# Altium schematic symbol library ESTEEMPCBLIB.SchLib: 593 symbols (part 3 of 5)
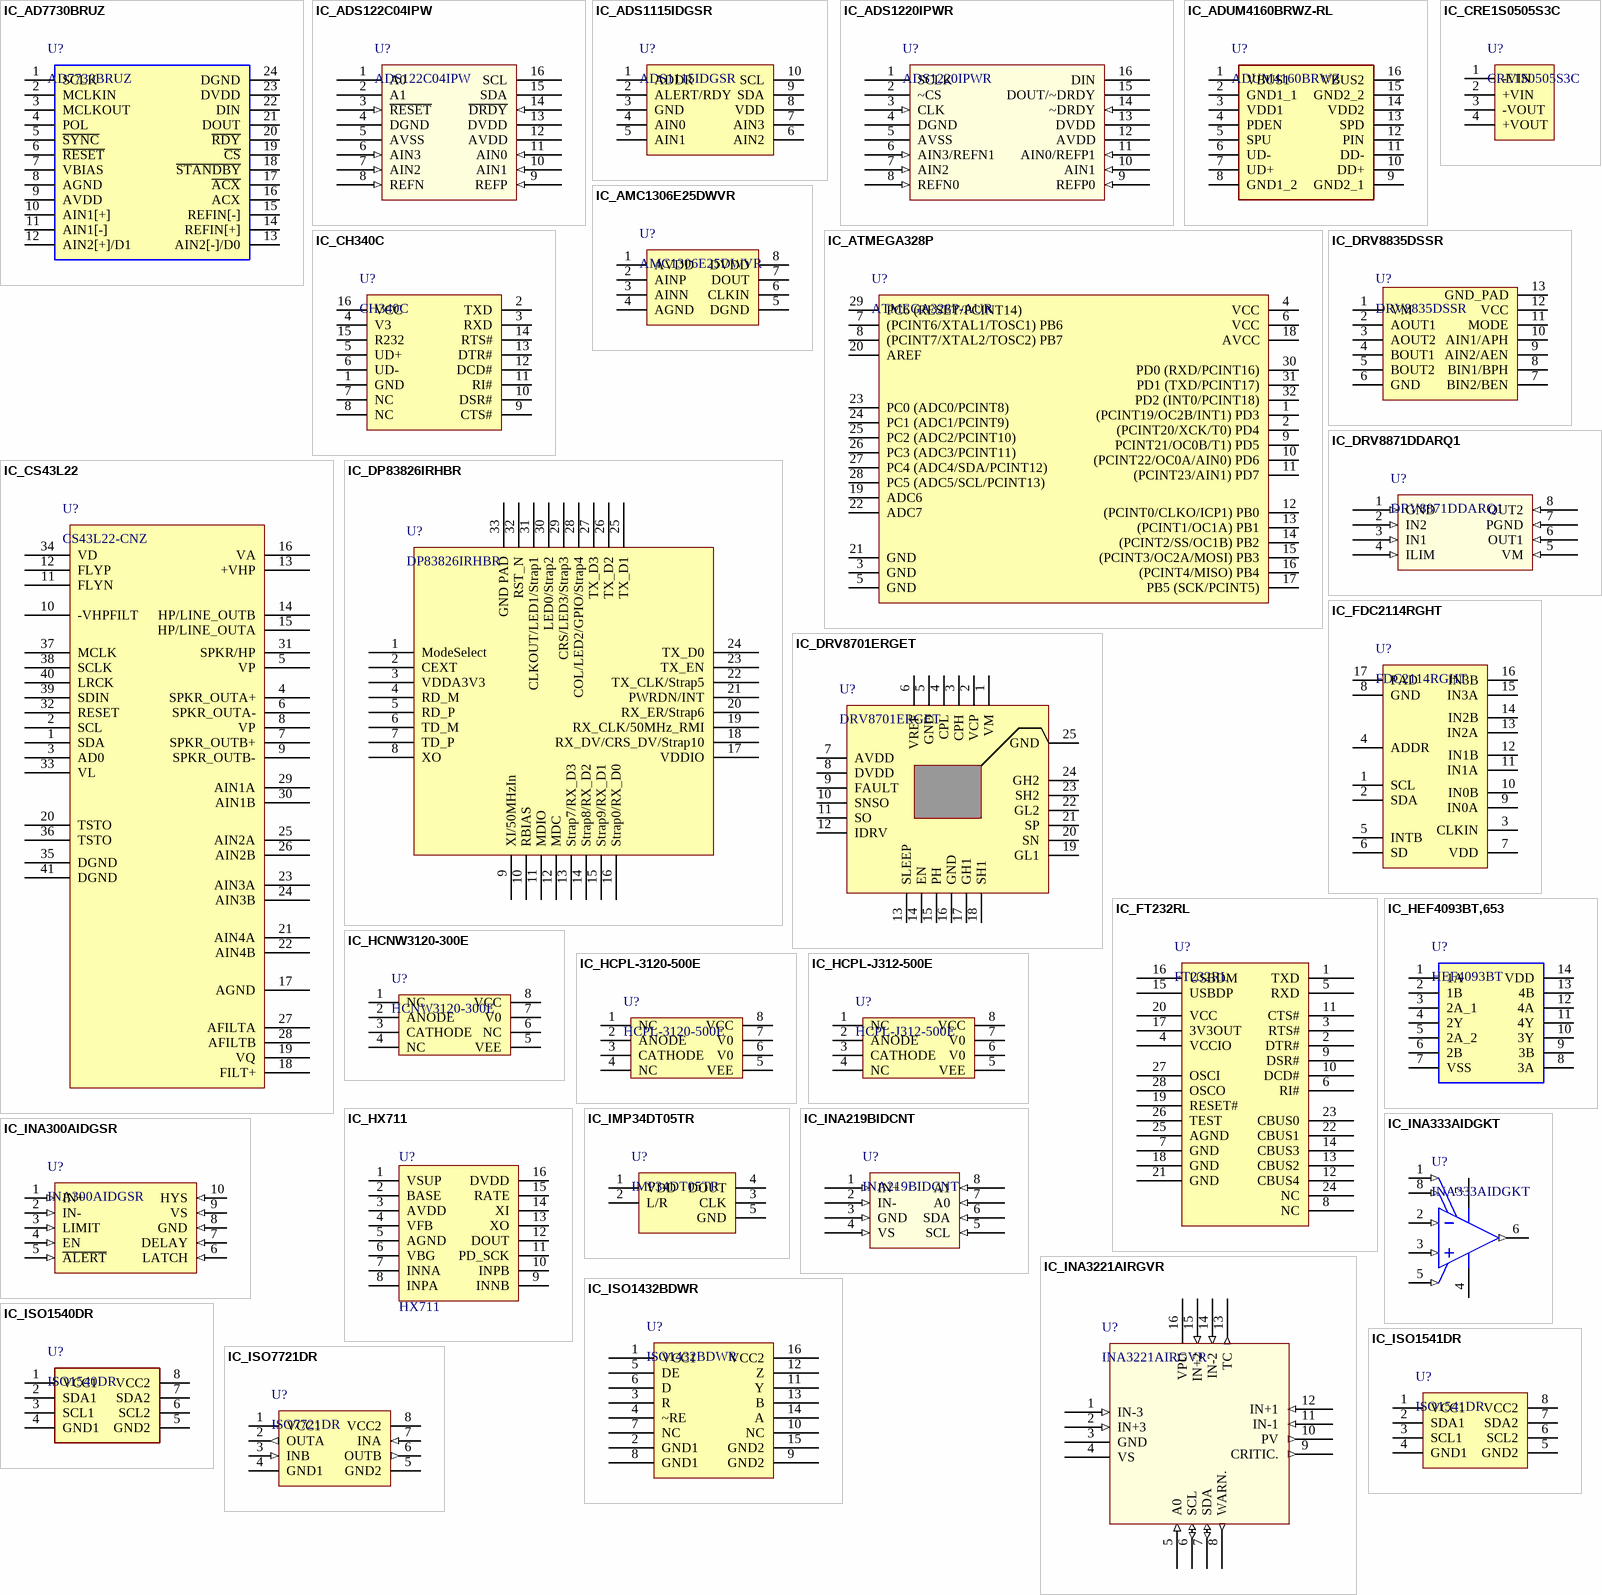
[diagram p18: symbols IC_AD7730BRUZ to IC_ISO7721DR]

## IC_HCPL-3120-500E
designator U?, comment HCPL-3120-500E
2.5A Gate Driver Optical Coupling 3750Vrms 1 Channel 8-DIP Gull Wing; Manufacturer: Broadcom Avago; Alternate Part Number-1: NA; Manufacturer Part Number: HCPL-3120-500E; Case/Package: SOIC8; Supplier-1: MOUSER; Supplier Part Number-1: HCPL-3120-500E
footprint SOIC8_50_328_25X90_SMT (SOIC)
pins: 1 NC, 2 ANODE, 3 CATHODE, 4 NC, 5 VEE, 6 V0, 7 V0, 8 VCC

## IC_HCPL-J312-500E
designator U?, comment HCPL-J312-500E
2.5A Gate Driver Optical Coupling 3750Vrms 1 Channel 8-DIP Gull Wing; Manufacturer: Broadcom Avago; Alternate Part Number-1: NA; Manufacturer Part Number: HCPL-J312-500E; Case/Package: SOIC8; Supplier-1: MOUSER; Supplier Part Number-1: HCPL-J312-500E
footprint SOIC8_50_328_25X90_SMT (SOIC)
pins: 1 NC, 2 ANODE, 3 CATHODE, 4 NC, 5 VEE, 6 V0, 7 V0, 8 VCC

## IC_HEF4093BT,653
designator U?, comment HEF4093BT
NAND Gate IC 4 Channel Schmitt Trigger 14-SO; Manufacturer: Nexperia; Manufacturer Part Number: HEF4093BT,653; Alternate Part Number-1: NA; Case/Package: SSOP14; Supplier-1: MOUSER; Supplier Part Number-1: HEF4093BT,653
footprint SOIC14_50_285_80X25_SMT (SOIC, 14-Leads, Body 8.56x3.90mm, Pitch 1.27mm, IPC Medium Density)
pins: 1 1A, 2 1B, 3 2A_1, 4 2Y, 5 2A_2, 6 2B, 7 VSS, 8 3A, 9 3B, 10 3Y, 11 4Y, 12 4A, 13 4B, 14 VDD

## IC_HX711
designator U?, comment HX711
24-Bit Analog-to-Digital Converter (ADC) for Weigh Scales; Manufacturer Part Number: HX711 - SOIC16; Manufacturer: AVIA Semiconductor; Alternate Part Number-1: NA; Case/Package: SOIC16; Supplier-1: MOUSER; Supplier Part Number-1: HX711 - SOIC16
footprint SOIC16_50_284_25X90_SMT
pins: 1 VSUP, 2 BASE, 3 AVDD, 4 VFB, 5 AGND, 6 VBG, 7 INNA, 8 INPA, 9 INNB, 10 INPB, 11 PD_SCK, 12 DOUT, 13 XO, 14 XI, 15 RATE, 16 DVDD

## IC_IMP34DT05TR
designator U?, comment IMP34DT05TR
MEMS Microphones AUTO & INDUSTRIAL SENSORS; Manufacturer: STMicroelectronics; Alternate Part Number-1: NA; Manufacturer Part Number: IMP34DT05TR; Case/Package: HCLGA-4; Supplier-1: Mouser; Supplier Part Number-1: 511-IMP34DT05TR
footprint HCLGA-4_53_137_15X37_SMD
pins: 1 VDD, 2 L/R, 3 CLK, 4 DOUT, 5 GND

## IC_INA219BIDCNT
designator U?, comment INA219BIDCNT
Current Monitor Regulator High-Side 10mA SOT-23-8; Manufacturer: Texas Instruments; Alternate Part Number-1: NA; Manufacturer Part Number: INA219BIDCNT; Case/Package: SOT-23-8; Supplier-1: Mouser; Supplier Part Number-1: 595-INA219BIDR
footprint SOT23-8 (Case-SOT)
pins: 1 IN+ (in), 2 IN- (in), 3 GND (in), 4 VS (in), 5 SCL (in), 6 SDA (in), 7 A0 (in), 8 A1 (in)

## IC_INA300AIDGSR
designator U?, comment INA300AIDGSR
Current Sense Regulator High/Low-Side 10-VSSOP; Manufacturer: Texas Instruments; Alternate Part Number-1: NA; Manufacturer Part Number: INA300AIDGSR; Case/Package: SSOP10; Supplier-1: ARROW; Supplier Part Number-1: INA300AIDGSR
footprint SSOP10_19_236_55X11_SMD
pins: 1 IN+ (in), 2 IN- (in), 3 LIMIT (in), 4 EN (in), 5 ~{ALERT} (in), 6 LATCH (in), 7 DELAY (in), 8 GND (in), 9 VS (in), 10 HYS (in)

## IC_INA333AIDGKT
designator U?, comment INA333AIDGKT
Instrumentation Amplifier 1 Circuit Rail-to-Rail 8-VSSOP; Manufacturer: Texas Instruments; Alternate Part Number-1: NA; Manufacturer Part Number: INA333AIDGKT; Case/Package: SOIC8; Supplier-1: Mouser; Supplier Part Number-1: 595-INA333AIDGKT
footprint SOIC8_50_328_25X90_SMT (SOIC)
pins: 1 RG (in), 2 VIN- (in), 3 VIN+ (in), 4 V- (power), 5 REF (in), 6 VOUT (out), 7 V+ (power), 8 RG (in)

## IC_INA3221AIRGVR
designator U?, comment INA3221AIRGVR
Current/Voltage Monitor Regulator High-Side 16-VQFN (4x4); Manufacturer: Texas Instruments; Alternate Part Number-1: NA; Manufacturer Part Number: INA3221AIRGVR; Case/Package: VQFN16; Supplier-1: ARROW; Supplier Part Number-1: INA3221AIRGVR
footprint VQFN16_27_311_19X94_SMD (PQFN, 16-Leads, Body 4.00x4.00mm, Pitch 0.65mm, Thermal Pad 2.05x2.05mm)
pins: 1 IN-3 (in), 2 IN+3 (in), 3 GND (power), 4 VS (power), 5 A0 (in), 6 SCL (io), 7 SDA (io), 8 WARN. (out), 9 CRITIC. (out), 10 PV (out), 11 IN-1 (in), 12 IN+1 (in), 13 TC (out), 14 IN-2 (in), 15 IN+2 (in), 16 VPU (power)

## IC_ISO1432BDWR
designator U?, comment ISO1432BDWR
1/1 Transceiver, Isolated Full RS422, RS485 16-SOIC; Manufacturer: Texas Instruments; Alternate Part Number-1: NA; Manufacturer Part Number: ISO1432BDWR; Case/Package: SOICW16; Supplier-1: Mouser; Supplier Part Number-1: 595-ISO1432BDWR
footprint SOICW16_50_440_25X76_SMT (SOICW)
pins: 1 VCC1, 2 GND1, 3 R, 4 ~RE, 5 DE, 6 D, 7 NC, 8 GND1, 9 GND2, 10 NC, 11 Y, 12 Z, 13 B, 14 A, 15 GND2, 16 VCC2

## IC_ISO1540DR
designator U?, comment ISO1540DR
I²C Digital Isolator 2500Vrms 2 Channel 1Mbps 25kV/µs CMTI 8-SOIC (0.154", 3.90mm Width); Manufacturer: Texas Instruments; Alternate Part Number-1: NA; Manufacturer Part Number: ISO1540DR; Case/Package: SOIC8; Supplier-1: Mouser; Supplier Part Number-1: 595-ISO1540DR
footprint SOIC8_50_328_25X90_SMT (SOIC)
pins: 1 VCC1, 2 SDA1, 3 SCL1, 4 GND1, 5 GND2, 6 SCL2, 7 SDA2, 8 VCC2

## IC_ISO1541DR
designator U?, comment ISO1541DR
I²C Digital Isolator 2500Vrms 2 Channel 1Mbps 25kV/µs CMTI 8-SOIC (0.154", 3.90mm Width); Manufacturer: Texas Instruments; Alternate Part Number-1: NA; Manufacturer Part Number: ISO1541DR; Case/Package: SOIC8; Supplier-1: Mouser; Supplier Part Number-1: 595-ISO1541DR
footprint SOIC8_50_328_25X90_SMT (SOIC)
pins: 1 VCC1, 2 SDA1, 3 SCL1, 4 GND1, 5 GND2, 6 SCL2, 7 SDA2, 8 VCC2

## IC_ISO7721DR
designator U?, comment ISO7721DR
General Purpose Digital Isolator 3000Vrms 2 Channel 100Mbps 85kV/µs CMTI 8-SOIC (0.154", 3.90mm Width); Manufacturer: Texas Instruments; Alternate Part Number-1: NA; Manufacturer Part Number: ISO7721DR; Case/Package: SOIC8; Supplier-1: ARROW; Supplier Part Number-1: ISO7721DR
footprint SOIC8_50_328_25X90_SMT (SOIC)
pins: 1 VCC1 (power), 2 OUTA (out), 3 INB (in), 4 GND1 (power), 5 GND2 (power), 6 OUTB (out), 7 INA (in), 8 VCC2 (power)

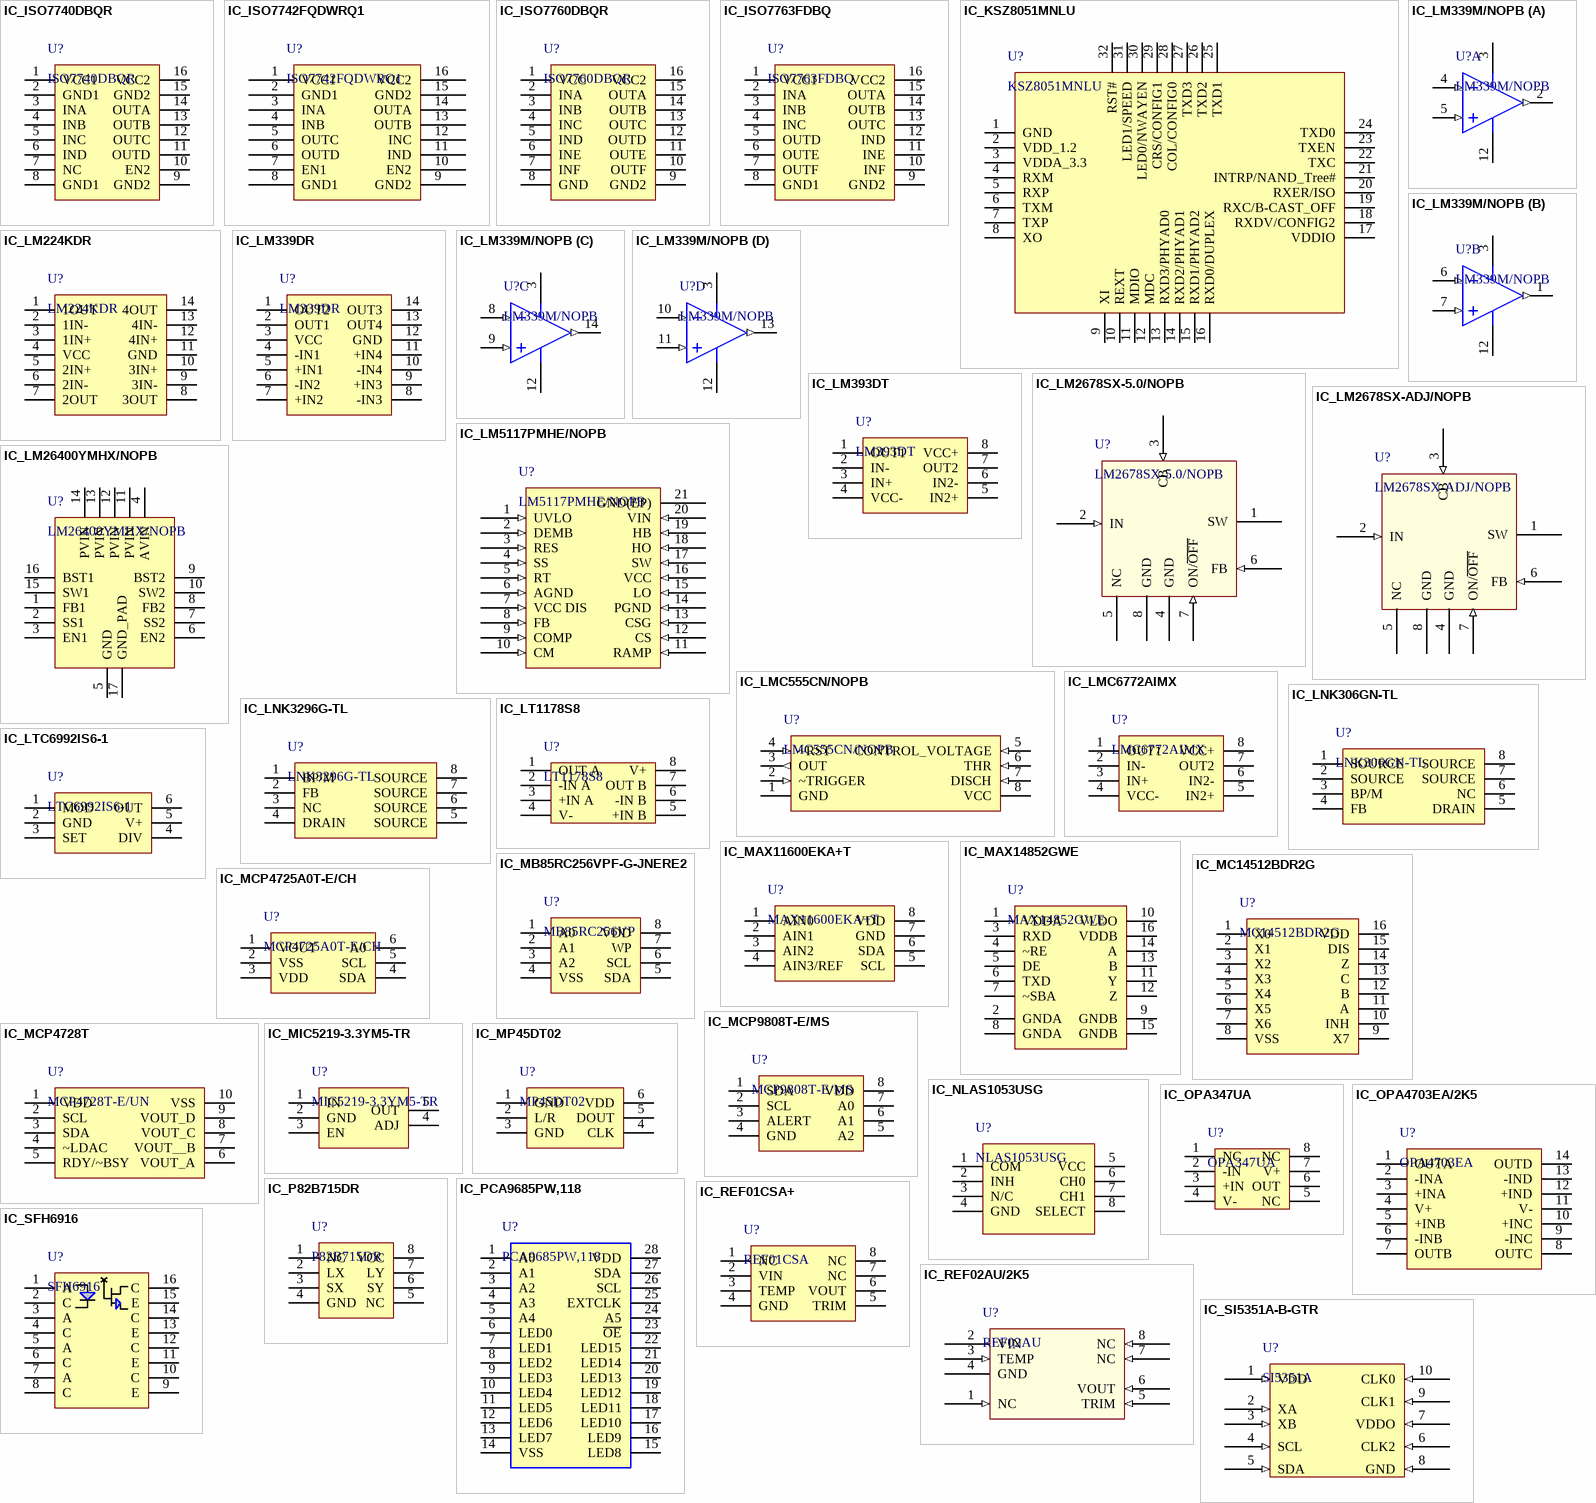
[diagram p7: symbols IC_ISO7740DBQR to IC_SI5351A-B-GTR]

## IC_ISO7740DBQR
designator U?, comment ISO7740DBQR
General Purpose Digital Isolator 3000Vrms 4 Channel 100Mbps 85kV/µs CMTI 16-SSOP (0.154", 3.90mm Width); Manufacturer: Texas Instruments; Alternate Part Number-1: NA; Manufacturer Part Number: ISO7740DBQR; Case/Package: SSOP-16; Supplier-1: Arrow; Supplier Part Number-1: ISO7740FQDBQQ1
footprint SSOP16_23.6_298_58X17_SMD (CASE: SSOP)
pins: 1 VCC1, 2 GND1, 3 INA, 4 INB, 5 INC, 6 IND, 7 NC, 8 GND1, 9 GND2, 10 EN2, 11 OUTD, 12 OUTC, 13 OUTB, 14 OUTA, 15 GND2, 16 VCC2

## IC_ISO7742FQDWRQ1
designator U?, comment ISO7742FQDWRQ1
General Purpose Digital Isolator 5000Vrms 4 Channel 100Mbps 40kV/µs CMTI 16-SOIC (0.295", 7.50mm Width); Manufacturer: Texas Instruments; Alternate Part Number-1: NA; Manufacturer Part Number: ISO7742FQDWRQ1; Case/Package: SOICW16; Supplier-1: ARROW; Supplier Part Number-1: ISO7742FQDWRQ1
footprint SOICW16_50_440_25X76_SMT (SOICW)
pins: 1 VCC1, 2 GND1, 3 INA, 4 INB, 5 OUTC, 6 OUTD, 7 EN1, 8 GND1, 9 GND2, 10 EN2, 11 IND, 12 INC, 13 OUTB, 14 OUTA, 15 GND2, 16 VCC2

## IC_ISO7760DBQR
designator U?, comment ISO7760DBQR
General Purpose Digital Isolator 3000Vrms 6 Channel 100Mbps 85kV/µs CMTI 16-SSOP (0.154", 3.90mm Width); Manufacturer: Texas Instruments; Alternate Part Number-1: NA; Manufacturer Part Number: ISO7760DBQR; Case/Package: SOIC16; Supplier-1: ARROW; Supplier Part Number-1: ISO7760DBQR
footprint SOIC16_50_284_25X90_SMT
pins: 1 VCC, 2 INA, 3 INB, 4 INC, 5 IND, 6 INE, 7 INF, 8 GND, 9 GND2, 10 OUTF, 11 OUTE, 12 OUTD, 13 OUTC, 14 OUTB, 15 OUTA, 16 VCC2

## IC_ISO7763FDBQ
designator U?, comment ISO7763FDBQ
General Purpose Digital Isolator 3000Vrms 6 Channel 100Mbps 85kV/µs CMTI 16-SSOP (0.154", 3.90mm Width); Manufacturer: Texas Instruments; Alternate Part Number-1: NA; Manufacturer Part Number: ISO7763FDBQ; Case/Package: SSOP16; Supplier-1: ARROW; Supplier Part Number-1: ISO7763FDBQ
footprint SSOP16_23.6_298_58X17_SMD (CASE: SSOP)
pins: 1 VCC1, 2 INA, 3 INB, 4 INC, 5 OUTD, 6 OUTE, 7 OUTF, 8 GND1, 9 GND2, 10 INF, 11 INE, 12 IND, 13 OUTC, 14 OUTB, 15 OUTA, 16 VCC2

## IC_KSZ8051MNLU
designator U?, comment KSZ8051MNLU
1/1 Transceiver Full MII 32-QFN (5x5); Manufacturer: Microchip Technology; Alternate Part Number-1: NA; Manufacturer Part Number: KSZ8051MNLU; Case/Package: 32-QFN (5x5); Supplier-1: Digikey; Supplier Part Number-1: KSZ8051MNLU-TR-ND
footprint QFN32_19_193_12X32_SMD (QFN Package)
pins: 1 GND, 2 VDD_1.2, 3 VDDA_3.3, 4 RXM, 5 RXP, 6 TXM, 7 TXP, 8 XO, 9 XI, 10 REXT, 11 MDIO, 12 MDC, 13 RXD3/PHYAD0, 14 RXD2/PHYAD1, 15 RXD1/PHYAD2, 16 RXD0/DUPLEX, 17 VDDIO, 18 RXDV/CONFIG2, 19 RXC/B-CAST_OFF, 20 RXER/ISO, 21 INTRP/NAND_Tree#, 22 TXC, 23 TXEN, 24 TXD0, 25 TXD1, 26 TXD2, 27 TXD3, 28 COL/CONFIG0, 29 CRS/CONFIG1, 30 LED0/NWAYEN, 31 LED1/SPEED, 32 RST#

## IC_LM224KDR
designator U?, comment LM224KDR
General Purpose Amplifier 4 Circuit 14-SOIC; Manufacturer: Texas Instruments; Alternate Part Number-1: NA; Manufacturer Part Number: LM224KDR; Case/Package: SOIC14; Supplier-1: RS COMPONENTS; Supplier Part Number-1: LM224KDR
footprint SOIC14_50_285_80X25_SMT (SOIC, 14-Leads, Body 8.56x3.90mm, Pitch 1.27mm, IPC Medium Density)
pins: 1 1OUT, 2 1IN-, 3 1IN+, 4 VCC, 5 2IN+, 6 2IN-, 7 2OUT, 8 3OUT, 9 3IN-, 10 3IN+, 11 GND, 12 4IN+, 13 4IN-, 14 4OUT

## IC_LM339DR
designator U?, comment LM339DR
Comparator Differential CMOS, MOS, Open-Collector, TTL 14-SOIC; Manufacturer: TI National Semiconductor; Alternate Part Number-1: LM339NSR; Manufacturer Part Number: LM339DR; Case/Package: TSSOP14; Supplier-1: LCSC; Supplier Part Number-1: C7948
footprint TSSOP14_25.6_296_15X55_SMD (CASE: TSSOP)
pins: 1 OUT2, 2 OUT1, 3 VCC, 4 -IN1, 5 +IN1, 6 -IN2, 7 +IN2, 8 -IN3, 9 +IN3, 10 -IN4, 11 +IN4, 12 GND, 13 OUT4, 14 OUT3

## IC_LM339M/NOPB
designator U?, comment LM339M/NOPB
Comparator General Purpose CMOS, DTL, ECL, MOS, Open-Collector, TTL 14-SOIC; Manufacturer: TI National Semiconductor; Alternate Part Number-1: NA; Manufacturer Part Number: LM339M/NOPB; Case/Package: SOIC14; Supplier-1: RS COMP; Supplier Part Number-1: LM339M/NOPB
footprint SOIC14_50_285_80X25_SMT (SOIC, 14-Leads, Body 8.56x3.90mm, Pitch 1.27mm, IPC Medium Density)
part A pins: 2 OUT1 (out), 3 V+ (power), 4 IN1- (in), 5 IN1+ (in), 12 GND (power)
part B pins: 1 OUT2 (out), 3 V+ (power), 6 IN2- (in), 7 IN2+ (in), 12 GND (power)
part C pins: 3 V+ (power), 8 IN3- (in), 9 IN3+ (in), 12 GND (power), 14 OUT3 (out)
part D pins: 3 V+ (power), 10 IN4- (in), 11 IN4+ (in), 12 GND (power), 13 OUT4 (out)

## IC_LM393DT
designator U?, comment LM393DT
Comparator General Purpose CMOS, DTL, ECL, MOS, Open-Collector, TTL 8-SO; Manufacturer: Texas Instruments; Alternate Part Number-1: NA; Manufacturer Part Number: LM393DT; Case/Package: SOIC8; Supplier-1: ARROW; Supplier Part Number-1: LM393DT
footprint SOIC8_50_328_25X90_SMT (SOIC)
pins: 1 OUT1, 2 IN-, 3 IN+, 4 VCC-, 5 IN2+, 6 IN2-, 7 OUT2, 8 VCC+

## IC_LM2678SX-5.0/NOPB
designator U?, comment LM2678SX-5.0/NOPB
Buck Switching Regulator IC Positive Fixed 5V 1 Output 5A TO-263-8, D²Pak (7 Leads + Tab), TO-263CA; Manufacturer: TI National Semiconductor; Alternate Part Number-1: LM2678SX-ADJ/NOPB; Manufacturer Part Number: LM2678SX-5.0/NOPB; Case/Package: TO-263-7; Supplier-1: MOUSER; Supplier Part Number-1: LM2678SX-5.0/NOPB
footprint TO-263-7_SMD (CASE: TO-263)
pins: 1 SW (power), 2 IN (in), 3 CB (in), 4 GND (power), 5 NC, 6 FB (in), 7 ON/~{OFF} (in), 8 GND (power)

## IC_LM2678SX-ADJ/NOPB
designator U?, comment LM2678SX-ADJ/NOPB
Buck Switching Regulator IC Positive Adjustable 1.21V 1 Output 5A TO-263-8, D²Pak (7 Leads + Tab), TO-263CA; Manufacturer: Texas Instruments; Alternate Part Number-1: NA; Manufacturer Part Number: LM2678SX-ADJ/NOPB; Case/Package: TO-263-8; Supplier-1: LCSC; Supplier Part Number-1: C40844
footprint TO-263-7_SMD (CASE: TO-263)
pins: 1 SW (power), 2 IN (in), 3 CB (in), 4 GND (power), 5 NC, 6 FB (in), 7 ON/~{OFF} (in), 8 GND (power)

## IC_LM5117PMHE/NOPB
designator U?, comment LM5117PMHE/NOPB
Buck Regulator Positive Output Step-Down DC-DC Controller IC 20-HTSSOP; Manufacturer: STMicroelectronics; Alternate Part Number-1: NA; Manufacturer Part Number: LM5117PMHE/NOPB; Case/Package: SSOP20; Supplier-1: LCSC; Supplier Part Number-1: C390088
footprint SSOP20_25.5_354_70X18_SMD (CASE: SSOP)
pins: 1 UVLO (in), 2 DEMB (in), 3 RES (in), 4 SS (in), 5 RT (in), 6 AGND (in), 7 VCC DIS (in), 8 FB (in), 9 COMP (in), 10 CM (in), 11 RAMP (in), 12 CS (in), 13 CSG (in), 14 PGND (in), 15 LO (in), 16 VCC (in), 17 SW (in), 18 HO (in), 19 HB (in), 20 VIN (in), 21 GND(EP)

## IC_LM26400YMHX/NOPB
designator U?, comment LM26400YMHX/NOPB
Buck Switching Regulator IC Positive Adjustable 0.6V 2 Output 2A 16-PowerTSSOP (0.173", 4.40mm Width); Manufacturer: TI National Semiconductor; Alternate Part Number-1: NA; Manufacturer Part Number: LM26400YMHX/NOPB; Case/Package: HTSSOP 16; Supplier-1: ARROW; Supplier Part Number-1: LM26400YMHX/NOPB
footprint HTSSOP-16_26_307_59X17_SMD (16-PowerTSSOP)
pins: 1 FB1, 2 SS1, 3 EN1, 4 AVIN, 5 GND, 6 EN2, 7 SS2, 8 FB2, 9 BST2, 10 SW2, 11 PVIN, 12 PVIN, 13 PVIN, 14 PVIN, 15 SW1, 16 BST1, 17 GND_PAD

## IC_LMC555CN/NOPB
designator U?, comment LMC555CN/NOPB
555 Type, Timer/Oscillator (Single) IC 3MHz 8-PDIP; Manufacturer: Texas Instruments; Alternate Part Number-1: NE555N; Manufacturer Part Number: LMC555CN/NOPB; Case/Package: 8-PDIP; Supplier-1: Digikey; Supplier Part Number-1: LMC555CN/NOPB-ND
footprint PDIP-8_100_393_66X66_TH (DIP-8 Package)
pins: 1 GND, 2 ~TRIGGER (in), 3 OUT (out), 4 ~RST (in), 5 CONTROL_VOLTAGE (in), 6 THR (in), 7 DISCH (in), 8 VCC (power)

## IC_LMC6772AIMX
designator U?, comment LMC6772AIMX
Comparator General Purpose Open Drain 8-SOIC; Manufacturer: TI National Semiconductor; Manufacturer Part Number: LMC6772AIMX/NOPB; Alternate Part Number-1: NA; Case/Package: SOIC8; Supplier-1: ARROW; Supplier Part Number-1: LMC6772AIMX/NOPB
footprint SOIC8_50_328_25X90_SMT (SOIC)
pins: 1 OUT1, 2 IN-, 3 IN+, 4 VCC-, 5 IN2+, 6 IN2-, 7 OUT2, 8 VCC+

## IC_LNK306GN-TL
designator U?, comment LNK306GN-TL
Converter Offline Buck, Buck-Boost, Flyback Topology 66kHz SMD-8B; Manufacturer: Power Integrations; Alternate Part Number-1: NA; Manufacturer Part Number: LNK306GN-TL; Case/Package: SMD8B; Supplier-1: Mouser; Supplier Part Number-1: 869-LNK306GN-TL
footprint SMD8B_86_430_45X80_SMD (SMD-8B)
pins: 1 SOURCE, 2 SOURCE, 3 BP/M, 4 FB, 5 DRAIN, 6 NC, 7 SOURCE, 8 SOURCE

## IC_LNK3296G-TL
designator U?, comment LNK3296G-TL
Converter Offline Buck, Buck-Boost, Flyback Topology 66kHz SMD-8C; Manufacturer: Power Integrations; Alternate Part Number-1: NA; Manufacturer Part Number: LNK3296G-TL; Case/Package: SMD-8B; Supplier-1: Mouser; Supplier Part Number-1: 869-LNK3296G-TL
footprint SMD8B_86_430_45X80_SMD (SMD-8B)
pins: 1 BP/M, 2 FB, 3 NC, 4 DRAIN, 5 SOURCE, 6 SOURCE, 7 SOURCE, 8 SOURCE

## IC_LT1178S8
designator U?, comment LT1178S8
General Purpose Amplifier 2 Circuit 8-SO; Manufacturer: Analog Devices / Linear Technology; Manufacturer Part Number: LT1178S8#PBF; Alternate Part Number-1: NA; Case/Package: SOIC8; Supplier-1: ARROW; Supplier Part Number-1: LT1178S8#PBF
footprint SOIC8_50_328_25X90_SMT (SOIC)
pins: 1 OUT A, 2 -IN A, 3 +IN A, 4 V-, 5 +IN B, 6 -IN B, 7 OUT B, 8 V+

## IC_LTC6992IS6-1
designator U?, comment LTC6992IS6-1
Oscillator, Silicon IC 3.81Hz ~ 1MHz TSOT-23-6; Manufacturer: Linear Technology/Analog Devices; Alternate Part Number-1: NA; Manufacturer Part Number: LTC6992IS6-1; Case/Package: SOT-23-6; Supplier-1: Arrow; Supplier Part Number-1: LTC6992IS6-1#TRMPBF
footprint SOT23-6 (CASE: SOT)
pins: 1 MOD, 2 GND, 3 SET, 4 DIV, 5 V+, 6 OUT

## IC_MAX11600EKA+T
designator U?, comment MAX11600EKA+T
Analog to Digital Converters - ADC 2.7V to 3.6V and 4.5V to 5.5V, Low-Power, 4-/8-/12-Channel, 2-Wire Serial 8-Bit ADCs; Manufacturer: Maxim Integrated; Alternate Part Number-1: NA; Manufacturer Part Number: MAX11600EKA+T; Case/Package: SOT-23-8; Supplier-1: Mouser; Supplier Part Number-1: 700-MAX11600EKAT
footprint SOT23-8 (Case-SOT)
pins: 1 AIN0, 2 AIN1, 3 AIN2, 4 AIN3/REF, 5 SCL, 6 SDA, 7 GND, 8 VDD

## IC_MAX14852GWE
designator U?, comment MAX14852GWE
1/1 Transceiver Full RS422, RS485 16-SOIC; Manufacturer: Maxim; Manufacturer Part Number: MAX14852GWE+T; Alternate Part Number-1: NA; Case/Package: SOICW16; Supplier-1: Mouser; Supplier Part Number-1: 700-MAX14852GWE+T
footprint SOICW16_50_440_25X76_SMT (SOICW)
pins: 1 VDDA, 2 GNDA, 3 RXD, 4 ~RE, 5 DE, 6 TXD, 7 ~SBA, 8 GNDA, 9 GNDB, 10 VLDO, 11 Y, 12 Z, 13 B, 14 A, 15 GNDB, 16 VDDB

## IC_MB85RC256VPF-G-JNERE2
designator U?, comment MB85RC256VP
FRAM (Ferroelectric RAM) Memory IC 256Kb (32K x 8) I²C 1MHz 550ns 8-SOP; Manufacturer: Fujitsu; Manufacturer Part Number: MB85RC256VPF-G-JNERE2; Alternate Part Number-1: NA; Case/Package: SOIC8; Supplier-1: LCSC; Supplier Part Number-1: C126728
footprint SOIC8_50_328_25X90_SMT (SOIC)
pins: 1 A0, 2 A1, 3 A2, 4 VSS, 5 SDA, 6 SCL, 7 WP, 8 VDD

## IC_MC14512BDR2G
designator U?, comment MC14512BDR2G
Data Selector/Multiplexer 1 x 8:1 16-SOIC; Manufacturer: ON Semiconductor; Alternate Part Number-1: NA; Manufacturer Part Number: MC14512BDR2G; Case/Package: SOIC16; Supplier-1: ARROW; Supplier Part Number-1: MC14512BDR2G
footprint SOIC16_50_284_25X90_SMT
pins: 1 X0, 2 X1, 3 X2, 4 X3, 5 X4, 6 X5, 7 X6, 8 VSS, 9 X7, 10 INH, 11 A, 12 B, 13 C, 14 Z, 15 DIS, 16 VDD

## IC_MCP4725A0T-E/CH
designator U?, comment MCP4725A0T-E/CH
12 Bit Digital to Analog Converter 1 SOT-23-6; Manufacturer: Microchip Technology; Alternate Part Number-1: NA; Manufacturer Part Number: MCP4725A0T-E/CH; Case/Package: SOT-23-6; Supplier-1: Digikey; Supplier Part Number-1: MCP4725A0T-E/CHCT-ND
footprint SOT23-6 (CASE: SOT)
pins: 1 VOUT, 2 VSS, 3 VDD, 4 SDA, 5 SCL, 6 A0

## IC_MCP4728T
designator U?, comment MCP4728T-E/UN
12 Bit Digital to Analog Converter 4 10-MSOP; Manufacturer: Microchip Technology; Alternate Part Number-1: NA; Manufacturer Part Number: MCP4728T-E/UN; Case/Package: 10-MSOP; Supplier-1: Arrow; Supplier Part Number-1: MCP4728T-E/UN
footprint MSOP-10_19.6_235_11.8X55X_SMD (IC)
pins: 1 VDD, 2 SCL, 3 SDA, 4 ~LDAC, 5 RDY/~BSY, 6 VOUT_A, 7 VOUT__B, 8 VOUT_C, 9 VOUT_D, 10 VSS

## IC_MCP9808T-E/MS
designator U?, comment MCP9808T-E/MS
Temperature Sensor Digital, Local -40°C ~ 125°C 10 b 8-MSOP; Manufacturer: Microchip; Alternate Part Number-1: NA; Manufacturer Part Number: MCP9808T-E/MS; Case/Package: MSOP8; Supplier-1: ARROW; Supplier Part Number-1: MCP9808T-E/MS
footprint MSOP-8_25.5_230_17.7X55_SMD (CASE:MSOP)
pins: 1 SDA, 2 SCL, 3 ALERT, 4 GND, 5 A2, 6 A1, 7 A0, 8 VDD

## IC_MIC5219-3.3YM5-TR
designator U?, comment MIC5219-3.3YM5-TR
Linear Voltage Regulator IC 1 Output 500mA SOT-23-5; Manufacturer: Microchip Micrel; Alternate Part Number-1: NA; Manufacturer Part Number: MIC5219-3.3YM5-TR; Case/Package: SOT-23-5; Supplier-1: ARROW; Supplier Part Number-1: MIC5219-3.3YM5-TR
footprint SOT23-5
pins: 1 IN, 2 GND, 3 EN, 4 ADJ, 5 OUT

## IC_MP45DT02
designator U?, comment MP45DT02
pins: 1 GND, 2 L/R, 3 GND, 4 CLK, 5 DOUT, 6 VDD

## IC_NLAS1053USG
designator U?, comment NLAS1053USG
1 Circuit IC Switch 2:1 16Ohm US8; Manufacturer: ON Semiconductor; Alternate Part Number-1: NA; Manufacturer Part Number: NLAS1053USG; Case/Package: 8-VFSOP; Supplier-1: Arrow; Supplier Part Number-1: NLAS1053USG
footprint VSSOP-8_19.6_157_33X11_SMD (VSSOP)
pins: 1 COM, 2 INH, 3 N/C, 4 GND, 5 VCC, 6 CH0, 7 CH1, 8 SELECT

## IC_OPA347UA
designator U?, comment OPA347UA
General Purpose Amplifier 1 Circuit Rail-to-Rail 8-SOIC; Manufacturer: Texas Instruments; Alternate Part Number-1: NA; Manufacturer Part Number: OPA347UA; Case/Package: SOIC8; Supplier-1: MOUSER; Supplier Part Number-1: OPA347UA
footprint SOIC8_50_328_25X90_SMT (SOIC)
pins: 1 NC, 2 -IN, 3 +IN, 4 V-, 5 NC, 6 OUT, 7 V+, 8 NC

## IC_OPA4703EA/2K5
designator U?, comment OPA4703EA
General Purpose Amplifier 4 Circuit Rail-to-Rail 14-TSSOP; Manufacturer: Texas Instruments; Manufacturer Part Number: OPA4703EA/2K5; Alternate Part Number-1: NA; Case/Package: TSSOP14; Supplier-1: MOUSER; Supplier Part Number-1: OPA4703EA/2K5
footprint TSSOP14_25.6_296_15X55_SMD (CASE: TSSOP)
pins: 1 OUTA, 2 -INA, 3 +INA, 4 V+, 5 +INB, 6 -INB, 7 OUTB, 8 OUTC, 9 -INC, 10 +INC, 11 V-, 12 +IND, 13 -IND, 14 OUTD

## IC_P82B715DR
designator U?, comment P82B715DR
Buffer, ReDriver 1 Channel 8-SOIC; Manufacturer: Texas Instruments; Alternate Part Number-1: NA; Manufacturer Part Number: P82B715DR; Case/Package: SOIC8; Supplier-1: ARROW; Supplier Part Number-1: P82B715DR
footprint SOIC8_50_328_25X90_SMT (SOIC)
pins: 1 NC, 2 LX, 3 SX, 4 GND, 5 NC, 6 SY, 7 LY, 8 VCC

## IC_PCA9685PW,118
designator U?, comment PCA9685PW,118
LED Driver IC 16 Output Linear PWM Dimming 25mA 28-TSSOP; Manufacturer: NXP Semiconductors; Alternate Part Number-1: NA; Manufacturer Part Number: PCA9685PW,118; Case/Package: TSSOP28; Supplier-1: ARROW; Supplier Part Number-1: PCA9685PW,118
footprint TSSOP28_25.5_295_15X58_SMD (CASE: TSSOP)
pins: 1 A0, 2 A1, 3 A2, 4 A3, 5 A4, 6 LED0, 7 LED1, 8 LED2, 9 LED3, 10 LED4, 11 LED5, 12 LED6, 13 LED7, 14 VSS, 15 LED8, 16 LED9, 17 LED10, 18 LED11, 19 LED12, 20 LED13, 21 LED14, 22 LED15, 23 ~{OE}, 24 A5, 25 EXTCLK, 26 SCL, 27 SDA, 28 VDD

## IC_REF01CSA+
designator U?, comment REF01CSA
Series Voltage Reference IC ±1% 8-SOIC; Manufacturer: Maxim; Manufacturer Part Number: REF01CSA+; Alternate Part Number-1: NA; Case/Package: SOIC8; Supplier-1: RS COMP; Supplier Part Number-1: REF01CSA+
footprint SOIC8_50_328_25X90_SMT (SOIC)
pins: 1 NC, 2 VIN, 3 TEMP, 4 GND, 5 TRIM, 6 VOUT, 7 NC, 8 NC

## IC_REF02AU/2K5
designator U?, comment REF02AU
Series Voltage Reference IC ±0.3% 8-SOIC; Manufacturer: Texas Instruments; Manufacturer Part Number: REF02AU/2K5; Alternate Part Number-1: NA; Case/Package: SOIC8; Supplier-1: ARROW; Supplier Part Number-1: REF02AU/2K5
footprint SOIC8_50_328_25X90_SMT (SOIC)
pins: 1 NC (in), 2 VIN (power), 3 TEMP (in), 4 GND (power), 5 TRIM (in), 6 VOUT (in), 7 NC (in), 8 NC (in)

## IC_SFH6916
designator U?, comment SFH6916
Optoisolator Transistor Output 3750Vrms 4 Channel 16-SOP; Manufacturer: Vishay Semiconductors; Alternate Part Number-1: NA; Manufacturer Part Number: SFH6916; Case/Package: SOIC16; Supplier-1: ARROW; Supplier Part Number-1: SFH6916
footprint SOIC16_50_284_25X90_SMT
pins: 1 A, 2 C, 3 A, 4 C, 5 A, 6 C, 7 A, 8 C, 9 E, 10 C, 11 E, 12 C, 13 E, 14 C, 15 E, 16 C

## IC_SI5351A-B-GTR
designator U?, comment SI5351A
Clock Generators & Support Products I2C Prog, Any Frequency, Any Output, Xtal Ref, 3-Output LVCMOS Clock Gen; Manufacturer: Silicon Labs; Manufacturer Part Number: SI5351A-B-GTR; Alternate Part Number-1: NA; Case/Package: SSOP10; Supplier-1: ARROW; Supplier Part Number-1: SI5351A-B-GTR
footprint SSOP10_19_236_55X11_SMD
pins: 1 VDD (in), 2 XA (in), 3 XB (in), 4 SCL (in), 5 SDA (in), 6 CLK2 (in), 7 VDDO (in), 8 GND (in), 9 CLK1 (in), 10 CLK0 (in)

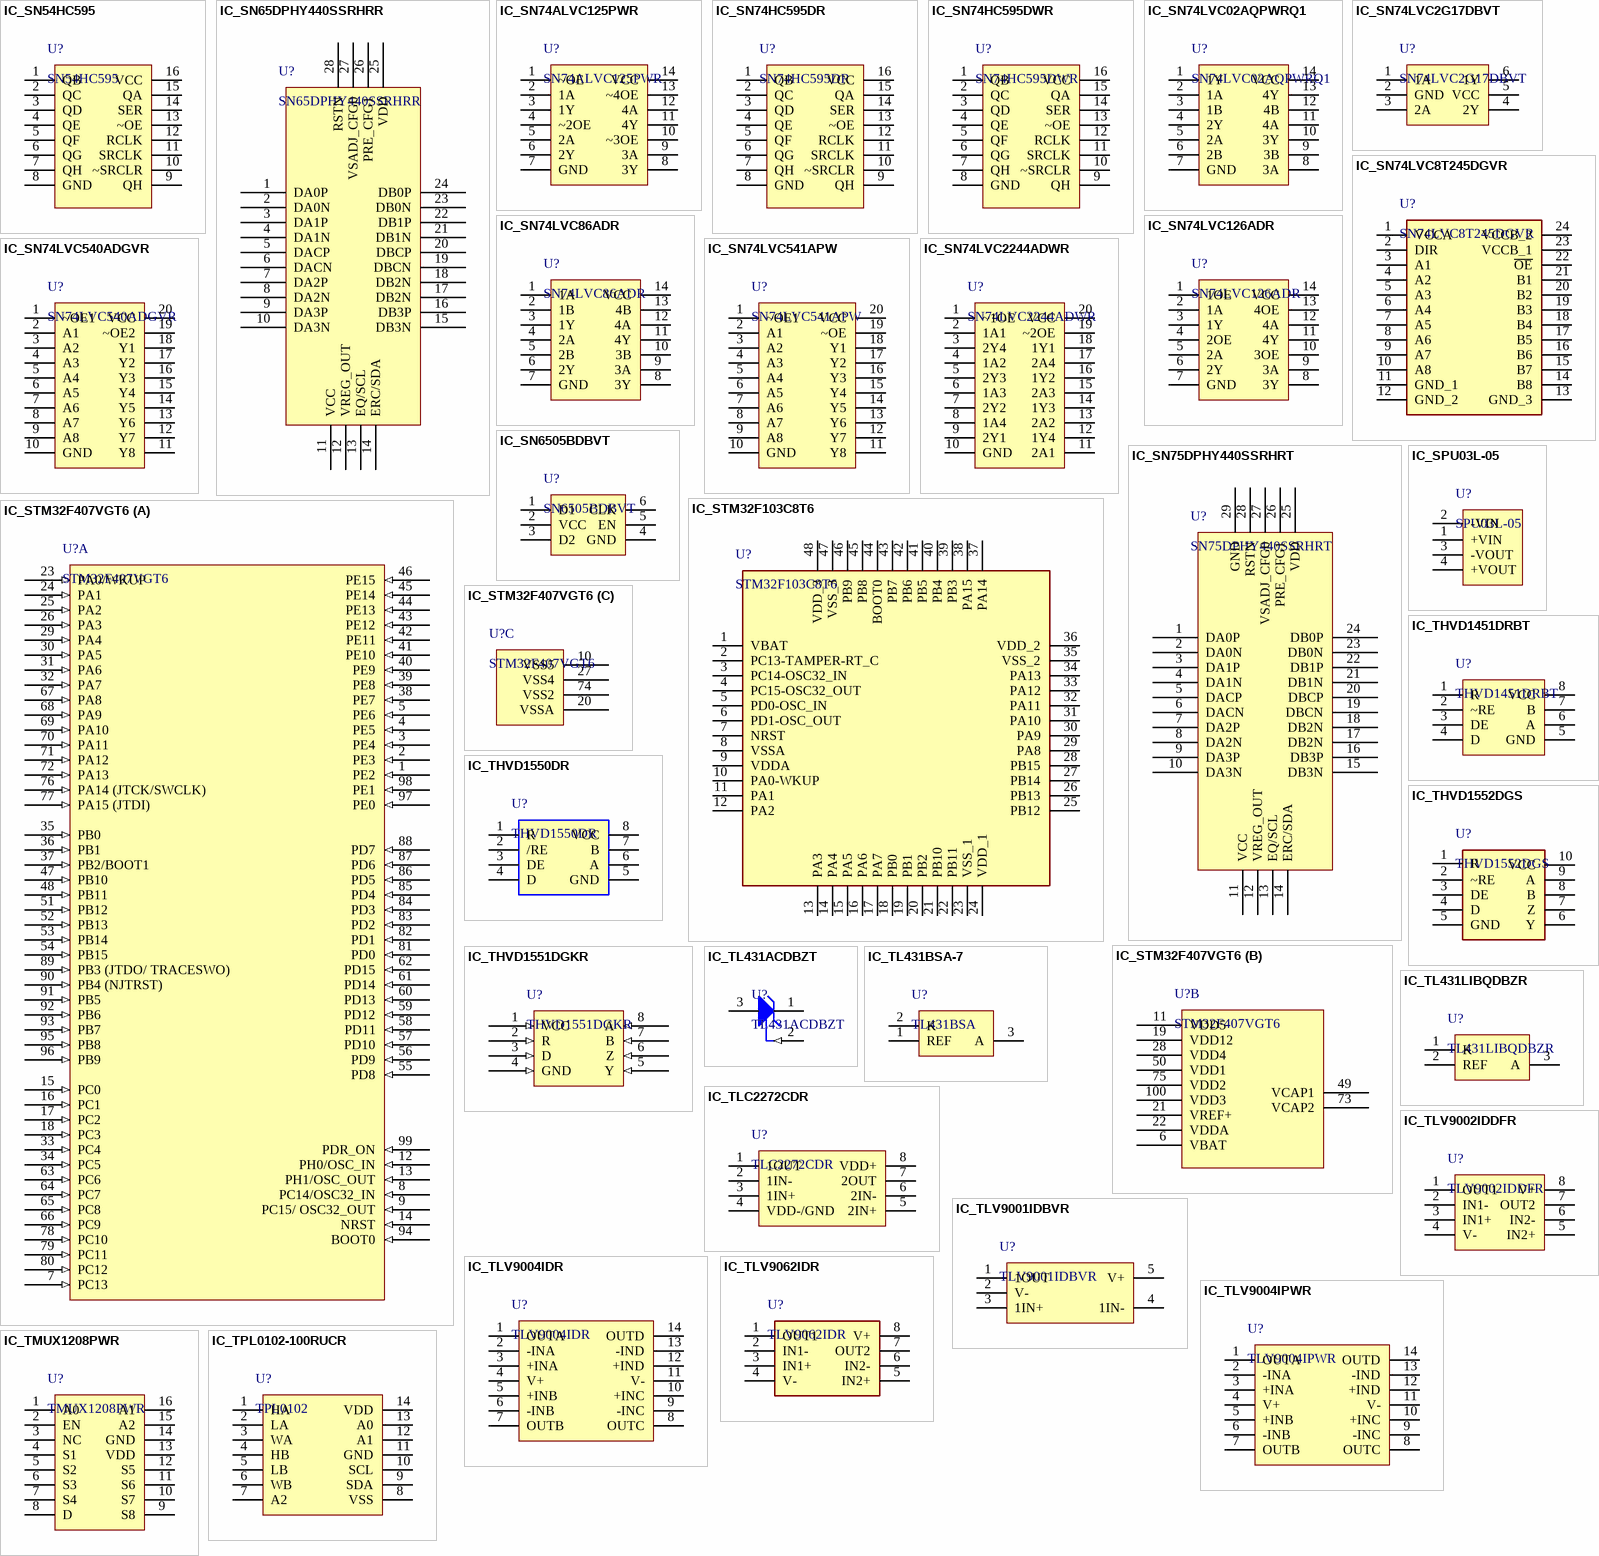
[diagram p8: symbols IC_SN54HC595 to IC_TPL0102-100RUCR]

## IC_SN54HC595
designator U?, comment SN54HC595
Parallel-out shift register IC_SN54HC595 The SNx4HC595 devices contain an 8-bit, serial-in, / 1• 8-Bit Serial-In; Manufacturer: Texas Instruments; Alternate Part Number-1: NA; Manufacturer Part Number: SN54HC595; Case/Package: TSSOP16; Supplier-1: ARROW; Supplier Part Number-1: SN54HC595
footprint TSSOP16_25-59_294_54X14_SMT (TSOP, 16-Leads, Body 5.00x4.40mm, Pitch 0.65mm)
pins: 1 QB, 2 QC, 3 QD, 4 QE, 5 QF, 6 QG, 7 QH, 8 GND, 9 QH, 10 ~SRCLR, 11 SRCLK, 12 RCLK, 13 ~OE, 14 SER, 15 QA, 16 VCC

## IC_SN65DPHY440SSRHRR
designator U?, comment SN65DPHY440SSRHRR
Video IC 28-WQFN (5.5x3.5) Package; Manufacturer: Texas Instruments; Alternate Part Number-1: NA; Manufacturer Part Number: SN65DPHY440SSRHRR; Case/Package: 28-WQFN; Supplier-1: Digikey; Supplier Part Number-1: 296-44524-1-ND
footprint WQFN-28_19.7_186_33.8X10_SMD (WQFN Package)
pins: 1 DA0P, 2 DA0N, 3 DA1P, 4 DA1N, 5 DACP, 6 DACN, 7 DA2P, 8 DA2N, 9 DA3P, 10 DA3N, 11 VCC, 12 VREG_OUT, 13 EQ/SCL, 14 ERC/SDA, 15 DB3N, 16 DB3P, 17 DB2N, 18 DB2N, 19 DBCN, 20 DBCP, 21 DB1N, 22 DB1P, 23 DB0N, 24 DB0P, 25 VDD, 26 PRE_CFG1, 27 VSADJ_CFG0, 28 RSTN

## IC_SN74ALVC125PWR
designator U?, comment SN74ALVC125PWR
Buffer, Non-Inverting 4 Element 1 Bit per Element 3-State Output 14-TSSOP; Manufacturer: Texas Instruments; Alternate Part Number-1: NA; Manufacturer Part Number: SN74ALVC125PWR; Case/Package: TSSOP14; Supplier-1: ARROW; Supplier Part Number-1: SN74ALVC125PWR
footprint TSSOP14_25.6_296_15X55_SMD (CASE: TSSOP)
pins: 1 ~OE, 2 1A, 3 1Y, 4 ~2OE, 5 2A, 6 2Y, 7 GND, 8 3Y, 9 3A, 10 ~3OE, 11 4Y, 12 4A, 13 ~4OE, 14 VCC

## IC_SN74HC595DR
designator U?, comment SN74HC595DR
Shift Shift Register 1 Element 8 Bit 16-SOIC; Manufacturer: TI; Alternate Part Number-1: NA; Manufacturer Part Number: SN74HC595DR; Case/Package: 16-SOIC; Supplier-1: Digikey; Supplier Part Number-1: 296-14857-1-ND
footprint SOIC16_50_284_25X90_SMT
pins: 1 QB, 2 QC, 3 QD, 4 QE, 5 QF, 6 QG, 7 QH, 8 GND, 9 QH, 10 ~SRCLR, 11 SRCLK, 12 RCLK, 13 ~OE, 14 SER, 15 QA, 16 VCC

## IC_SN74HC595DWR
designator U?, comment SN74HC595DWR
Shift Shift Register 1 Element 8 Bit 16-SOIC; Manufacturer: Texas Instruments; Alternate Part Number-1: NA; Manufacturer Part Number: SN74HC595DWR; Case/Package: SOICW-16; Supplier-1: ARROW; Supplier Part Number-1: SN74HC595DWR
footprint SOICW16_50_440_25X76_SMT (SOICW)
pins: 1 QB, 2 QC, 3 QD, 4 QE, 5 QF, 6 QG, 7 QH, 8 GND, 9 QH, 10 ~SRCLR, 11 SRCLK, 12 RCLK, 13 ~OE, 14 SER, 15 QA, 16 VCC

## IC_SN74LVC02AQPWRQ1
designator U?, comment SN74LVC02AQPWRQ1
NOR Gate IC 4 Channel 14-TSSOP; Manufacturer: Texas Instruments; Alternate Part Number-1: NA; Manufacturer Part Number: SN74LVC02AQPWRQ1; Case/Package: TSSOP-14; Supplier-1: Arrow; Supplier Part Number-1: SN74LVC02AQPWRQ1
footprint TSSOP14_25.6_296_15X55_SMD (CASE: TSSOP)
pins: 1 1Y, 2 1A, 3 1B, 4 2Y, 5 2A, 6 2B, 7 GND, 8 3A, 9 3B, 10 3Y, 11 4A, 12 4B, 13 4Y, 14 VCC

## IC_SN74LVC2G17DBVT
designator U?, comment SN74LVC2G17DBVT
Buffer, Non-Inverting 2 Element 1 Bit per Element Push-Pull Output SOT-23-6; Manufacturer: Texas Instruments; Alternate Part Number-1: NA; Manufacturer Part Number: SN74LVC2G17DBVT; Case/Package: SOT23-6; Supplier-1: ARROW; Supplier Part Number-1: SN74LVC2G17DBVT
footprint SOT23-6
pins: 1 1A, 2 GND, 3 2A, 4 2Y, 5 VCC, 6 1Y

## IC_SN74LVC8T245DGVR
designator U?, comment SN74LVC8T245DGVR
Voltage Level Translator Bidirectional 1 Circuit 8 Channel 24-TVSOP; Manufacturer: Texas Instruments; Alternate Part Number-1: NA; Manufacturer Part Number: SN74LVC8T245DGVR; Case/Package: 24TVSOP; Supplier-1: ARROW; Supplier Part Number-1: SN74LVC8T245DGVR
footprint TVSOP-24_15.7_290_58x7.7_smd (IC TRNSLTR BIDIRECTIONAL 24TVSOP)
pins: 1 VCCA, 2 DIR, 3 A1, 4 A2, 5 A3, 6 A4, 7 A5, 8 A6, 9 A7, 10 A8, 11 GND_1, 12 GND_2, 13 GND_3, 14 B8, 15 B7, 16 B6, 17 B5, 18 B4, 19 B3, 20 B2, 21 B1, 22 ~{OE}, 23 VCCB_1, 24 VCCB_2

## IC_SN74LVC86ADR
designator U?, comment SN74LVC86ADR
XOR (Exclusive OR) IC 4 Channel 14-SOIC; Manufacturer: Texas Instruments; Alternate Part Number-1: NA; Manufacturer Part Number: SN74LVC86ADR; Case/Package: 14-SOIC; Supplier-1: Arrow; Supplier Part Number-1: SN74LVC86ADR
footprint SOIC14_50_285_80X25_SMT (SOIC, 14-Leads, Body 8.56x3.90mm, Pitch 1.27mm, IPC Medium Density)
pins: 1 1A, 2 1B, 3 1Y, 4 2A, 5 2B, 6 2Y, 7 GND, 8 3Y, 9 3A, 10 3B, 11 4Y, 12 4A, 13 4B, 14 VCC

## IC_SN74LVC126ADR
designator U?, comment SN74LVC126ADR
Buffer, Non-Inverting 4 Element 1 Bit per Element 3-State Output 14-SOIC; Manufacturer: Texas Instruments; Alternate Part Number-1: NA; Manufacturer Part Number: SN74LVC126ADR; Case/Package: SOIC-14; Supplier-1: Arrow; Supplier Part Number-1: SN74LVC126ADR
footprint SOIC14_50_285_80X25_SMT (SOIC, 14-Leads, Body 8.56x3.90mm, Pitch 1.27mm, IPC Medium Density)
pins: 1 1OE, 2 1A, 3 1Y, 4 2OE, 5 2A, 6 2Y, 7 GND, 8 3Y, 9 3A, 10 3OE, 11 4Y, 12 4A, 13 4OE, 14 VCC

## IC_SN74LVC540ADGVR
designator U?, comment SN74LVC540ADGVR
Buffer, Inverting 1 Element 8 Bit per Element 3-State Output 20-TVSOP; Manufacturer: Texas Instruments; Alternate Part Number-1: NA; Manufacturer Part Number: SN74LVC540ADGVR; Case/Package: TVSOP-20; Supplier-1: Arrow; Supplier Part Number-1: SN74LVC540ADGVR
footprint TVSOP20_15.74_303_9x82.6_SMD (TVSOP Package)
pins: 1 ~OE1, 2 A1, 3 A2, 4 A3, 5 A4, 6 A5, 7 A6, 8 A7, 9 A8, 10 GND, 11 Y8, 12 Y7, 13 Y6, 14 Y5, 15 Y4, 16 Y3, 17 Y2, 18 Y1, 19 ~OE2, 20 VCC

## IC_SN74LVC541APW
designator U?, comment SN74LVC541APW
Buffer/Line Driver 8-CH Non-Inverting 3-ST CMOS 20-Pin TSSOP Tube; Manufacturer: Texas Instruments; Alternate Part Number-1: NA; Manufacturer Part Number: SN74LVC541APW; Case/Package: TSSOP-20; Supplier-1: Arrow; Supplier Part Number-1: SN74LVC541APW
footprint TSSOP20_25-59_292_12X65_SMT
pins: 1 ~OE1, 2 A1, 3 A2, 4 A3, 5 A4, 6 A5, 7 A6, 8 A7, 9 A8, 10 GND, 11 Y8, 12 Y7, 13 Y6, 14 Y5, 15 Y4, 16 Y3, 17 Y2, 18 Y1, 19 ~OE, 20 VCC

## IC_SN74LVC2244ADWR
designator U?, comment SN74LVC2244ADWR
Buffer, Non-Inverting 2 Element 4 Bit per Element 3-State Output 20-SOIC; Manufacturer: Texas Instruments; Alternate Part Number-1: NA; Manufacturer Part Number: SN74LVC2244ADWR; Case/Package: SOIC-20; Supplier-1: Digikey; Supplier Part Number-1: 296-8490-1-ND
footprint SOIC20_50_284_25X90_SMT
pins: 1 ~1OE, 2 1A1, 3 2Y4, 4 1A2, 5 2Y3, 6 1A3, 7 2Y2, 8 1A4, 9 2Y1, 10 GND, 11 2A1, 12 1Y4, 13 2A2, 14 1Y3, 15 2A3, 16 1Y2, 17 2A4, 18 1Y1, 19 ~2OE, 20 VCC

## IC_SN75DPHY440SSRHRT
designator U?, comment SN75DPHY440SSRHRT
Video IC 28-WQFN (5.5x3.5) Package; Manufacturer: Texas Instruments; Alternate Part Number-1: NA; Manufacturer Part Number: SN75DPHY440SSRHRT; Case/Package: 28-WQFN; Supplier-1: Digikey; Supplier Part Number-1: 296-44524-1-ND
footprint WQFN-28_19.7_186_33.8X10_SMD (WQFN Package)
pins: 1 DA0P, 2 DA0N, 3 DA1P, 4 DA1N, 5 DACP, 6 DACN, 7 DA2P, 8 DA2N, 9 DA3P, 10 DA3N, 11 VCC, 12 VREG_OUT, 13 EQ/SCL, 14 ERC/SDA, 15 DB3N, 16 DB3P, 17 DB2N, 18 DB2N, 19 DBCN, 20 DBCP, 21 DB1N, 22 DB1P, 23 DB0N, 24 DB0P, 25 VDD, 26 PRE_CFG1, 27 VSADJ_CFG0, 28 RSTN, 29 GND

## IC_SN6505BDBVT
designator U?, comment SN6505BDBVT
Transformer Driver PMIC SOT-23-6; Manufacturer: Texas Instruments; Alternate Part Number-1: NA; Manufacturer Part Number: SN6505BDBVT; Case/Package: SOT23-6; Supplier-1: ARROW; Supplier Part Number-1: SN6505BDBVT
footprint SOT23-6 (CASE: SOT)
pins: 1 D1, 2 VCC, 3 D2, 4 GND, 5 EN, 6 CLK

## IC_SPU03L-05
designator U?, comment SPU03L-05
Isolated Module DC DC Converter 1 Output 5V 600mA 4.5V - 5.5V Input; Manufacturer: Mean Well; Alternate Part Number-1: NA; Manufacturer Part Number: SPU03L-05; Case/Package: SPU03L-TH; Supplier-1: ARROW; Supplier Part Number-1: SPU03L-05
footprint SPU03L-05_100_787_35D70_TH (SPU03)
pins: 1 +VIN, 2 -VIN, 3 -VOUT, 4 +VOUT

## IC_STM32F103C8T6
designator U?, comment STM32F103C8T6
ARM® Cortex®-M3 STM32F1 Microcontroller IC 32-Bit 72MHz 64KB (64K x 8) FLASH 48-LQFP (7x7); Manufacturer: STMicroelectronics; Alternate Part Number-1: NA; Manufacturer Part Number: STM32F103C8T6; Case/Package: LQFP48; Supplier-1: LCSC; Supplier Part Number-1: STM32F103C8T6
footprint LQFP-48_19.6_393_58X11_SMD (48LQFP)
pins: 1 VBAT, 2 PC13-TAMPER-RT_C, 3 PC14-OSC32_IN, 4 PC15-OSC32_OUT, 5 PD0-OSC_IN, 6 PD1-OSC_OUT, 7 NRST, 8 VSSA, 9 VDDA, 10 PA0-WKUP, 11 PA1, 12 PA2, 13 PA3, 14 PA4, 15 PA5, 16 PA6, 17 PA7, 18 PB0, 19 PB1, 20 PB2, 21 PB10, 22 PB11, 23 VSS_1, 24 VDD_1, 25 PB12, 26 PB13, 27 PB14, 28 PB15, 29 PA8, 30 PA9, 31 PA10, 32 PA11, 33 PA12, 34 PA13, 35 VSS_2, 36 VDD_2, 37 PA14, 38 PA15, 39 PB3, 40 PB4, 41 PB5, 42 PB6, 43 PB7, 44 BOOT0, 45 PB8, 46 PB9, 47 VSS_3, 48 VDD_3

## IC_STM32F407VGT6
designator U?, comment STM32F407VGT6
ARM® Cortex®-M4 STM32F4 Microcontroller IC 32-Bit 168MHz 1MB (1M x 8) FLASH 100-LQFP (14x14); Manufacturer: STMicroelectronics; Alternate Part Number-1: STM32F407VET6; Manufacturer Part Number: STM32F407VGT6; Case/Package: LQFP100; Supplier-1: ARROW; Supplier Part Number-1: STM32F407VGT6
footprint QFN100_19.6_669_58X10_SMD (CASE: QFN)
part A pins: 1 PE2 (in), 2 PE3 (in), 3 PE4 (in), 4 PE5 (in), 5 PE6 (in), 7 PC13 (in), 8 PC14/OSC32_IN (in), 9 PC15/ OSC32_OUT (in), 12 PH0/OSC_IN (in), 13 PH1/OSC_OUT (in), 14 NRST (in), 15 PC0 (in), 16 PC1 (in), 17 PC2 (in), 18 PC3 (in), 23 PA0/WKUP (in), 24 PA1 (in), 25 PA2 (in), 26 PA3 (in), 29 PA4 (in), 30 PA5 (in), 31 PA6 (in), 32 PA7 (in), 33 PC4 (in), 34 PC5 (in), 35 PB0 (in), 36 PB1 (in), 37 PB2/BOOT1 (in), 38 PE7 (in), 39 PE8 (in), 40 PE9 (in), 41 PE10 (in), 42 PE11 (in), 43 PE12 (in), 44 PE13 (in), 45 PE14 (in), 46 PE15 (in), 47 PB10 (in), 48 PB11 (in), 51 PB12 (in), 52 PB13 (in), 53 PB14 (in), 54 PB15 (in), 55 PD8 (in), 56 PD9 (in), 57 PD10 (in), 58 PD11 (in), 59 PD12 (in), 60 PD13 (in), 61 PD14 (in), 62 PD15 (in), 63 PC6 (in), 64 PC7 (in), 65 PC8 (in), 66 PC9 (in), 67 PA8 (in), 68 PA9 (in), 69 PA10 (in), 70 PA11 (in), 71 PA12 (in), 72 PA13 (in), 76 PA14 (JTCK/SWCLK) (in), 77 PA15 (JTDI) (in), 78 PC10 (in), 79 PC11 (in), 80 PC12 (in), 81 PD0 (in), 82 PD1 (in), 83 PD2 (in), 84 PD3 (in), 85 PD4 (in), 86 PD5 (in), 87 PD6 (in), 88 PD7 (in), 89 PB3 (JTDO/ TRACESWO) (in), 90 PB4 (NJTRST) (in), 91 PB5 (in), 92 PB6 (in), 93 PB7 (in), 94 BOOT0 (in), 95 PB8 (in), 96 PB9 (in), 97 PE0 (in), 98 PE1 (in), 99 PDR_ON (in)
part B pins: 6 VBAT, 11 VDD5, 19 VDD12, 21 VREF+, 22 VDDA, 28 VDD4, 49 VCAP1, 50 VDD1, 73 VCAP2, 75 VDD2, 100 VDD3
part C pins: 10 VSS5, 20 VSSA, 27 VSS4, 74 VSS2

## IC_THVD1451DRBT
designator U?, comment THVD1451DRBT
1/1 Transceiver Full RS485 8-VSON (3x3); Manufacturer: Texas Instruments; Alternate Part Number-1: NA; Manufacturer Part Number: THVD1451DRBT; Case/Package: 8-SOIC; Supplier-1: Mouser; Supplier Part Number-1: 595-THVD1451DRBR
footprint SOIC8_50_328_25X90_SMT (SOIC)
pins: 1 R, 2 ~RE, 3 DE, 4 D, 5 GND, 6 A, 7 B, 8 VCC

## IC_THVD1550DR
designator U?, comment THVD1550DR
1/1 Transceiver Half RS485 8-SOIC; Manufacturer: Texas Instruments; Alternate Part Number-1: NA; Manufacturer Part Number: THVD1550DR; Case/Package: SOIC8; Supplier-1: MOUSER; Supplier Part Number-1: THVD1550DR
footprint SOIC8_50_328_25X90_SMT (SOIC)
pins: 1 R, 2 /RE, 3 DE, 4 D, 5 GND, 6 A, 7 B, 8 VCC

## IC_THVD1551DGKR
designator U?, comment THVD1551DGKR
1/1 Transceiver Full RS485 8-VSSOP; Manufacturer: Texas Instruments; Alternate Part Number-1: NA; Manufacturer Part Number: THVD1551DGKR; Case/Package: SOIC8; Supplier-1: MOUSER; Supplier Part Number-1: THVD1551DGKR
footprint SOIC8_50_328_25X90_SMT (SOIC)
pins: 1 VCC (in), 2 R (in), 3 D (in), 4 GND (in), 5 Y (in), 6 Z (in), 7 B (in), 8 A (in)

## IC_THVD1552DGS
designator U?, comment THVD1552DGS
1/1 Transceiver Full RS485 10-VSSOP; Manufacturer: Texas Instruments; Alternate Part Number-1: NA; Manufacturer Part Number: THVD1552DGS; Case/Package: SSOP10; Supplier-1: MOUSER; Supplier Part Number-1: THVD1552DGS
footprint SSOP10_19_236_55X11_SMD (CASE: SSOP)
pins: 1 R, 2 ~RE, 3 DE, 4 D, 5 GND, 6 Y, 7 Z, 8 B, 9 A, 10 VCC

## IC_TL431ACDBZT
designator U?, comment TL431ACDBZT
Shunt Voltage Reference IC 36V ±1% SOT-23-3; Manufacturer: Texas Instruments; Alternate Part Number-1: NA; Manufacturer Part Number: TL431ACDBZT; Case/Package: SOT-23; Supplier-1: Mouser; Supplier Part Number-1: 595-TL431ACDBZT
footprint SOT 23-3 (Case: SOT23)
pins: 1 CATHODE, 2 REF (in), 3 ANODE

## IC_TL431BSA-7
designator U?, comment TL431BSA
Shunt Voltage Reference IC 36V ±0.5% SOT-23-3; Manufacturer: Diodes; Manufacturer Part Number: TL431BSA-7; Alternate Part Number-1: NA; Case/Package: SOT-23; Supplier-1: Mouser; Supplier Part Number-1: 621-TL431BSA-7
footprint SOT 23-3
pins: 1 REF, 2 K, 3 A

## IC_TL431LIBQDBZR
designator U?, comment TL431LIBQDBZR
Shunt Voltage Reference IC 36V ±0.5% SOT-23-3; Manufacturer: Texas Instruments; Alternate Part Number-1: NA; Manufacturer Part Number: TL431LIBQDBZR; Case/Package: SOT-23-3; Supplier-1: Mouser; Supplier Part Number-1: 595-TL431LIBQDBZR
footprint SOT 23-3 (Case: SOT23)
pins: 1 K, 2 REF, 3 A

## IC_TLC2272CDR
designator U?, comment TLC2272CDR
General Purpose Amplifier 2 Circuit Rail-to-Rail 8-SOIC; Manufacturer: Texas Instruments; Alternate Part Number-1: NA; Manufacturer Part Number: TLC2272CDR; Case/Package: SOIC8; Supplier-1: LCSC; Supplier Part Number-1: C6979
footprint SOIC8_50_328_25X90_SMT (SOIC)
pins: 1 1OUT, 2 1IN-, 3 1IN+, 4 VDD-/GND, 5 2IN+, 6 2IN-, 7 2OUT, 8 VDD+

## IC_TLV9001IDBVR
designator U?, comment TLV9001IDBVR
CMOS Amplifier 1 Circuit Rail-to-Rail SOT-23-5; Manufacturer: Texas Instruments; Alternate Part Number-1: NA; Manufacturer Part Number: TLV9001IDBVR; Case/Package: SOT-23-5; Supplier-1: Mouser; Supplier Part Number-1: TLV9001IDBVR
footprint SOT23-5 (CASE: SOT)
pins: 1 1OUT, 2 V-, 3 1IN+, 4 1IN-, 5 V+

## IC_TLV9002IDDFR
designator U?, comment TLV9002IDDFR
Operational Amplifiers - Op Amps 2-Channel, 1MHz, RRIO, 1.8V to 5.5V Operational Amplifier for Cost-Optimized Systems 8-SOT-23-THIN -40 to 125; Manufacturer: Texas Instruments; Alternate Part Number-1: NA; Manufacturer Part Number: TLV9002IDDFR; Case/Package: SOT-23-8; Supplier-1: Mouser; Supplier Part Number-1: 595-TLV9002IDDFR
footprint SOT23-8 (Case-SOT)
pins: 1 OUT1, 2 IN1-, 3 IN1+, 4 V-, 5 IN2+, 6 IN2-, 7 OUT2, 8 V+

## IC_TLV9004IDR
designator U?, comment TLV9004IDR
CMOS Amplifier 4 Circuit Rail-to-Rail 14-SOIC; Manufacturer: Texas Instruments; Alternate Part Number-1: NA; Manufacturer Part Number: TLV9004IDR; Case/Package: 14-SOIC; Supplier-1: Digikey; Supplier Part Number-1: 296-51826-1-ND
footprint SOIC14_50_285_80X25_SMT (SOIC, 14-Leads, Body 8.56x3.90mm, Pitch 1.27mm, IPC Medium Density)
pins: 1 OUTA, 2 -INA, 3 +INA, 4 V+, 5 +INB, 6 -INB, 7 OUTB, 8 OUTC, 9 -INC, 10 +INC, 11 V-, 12 +IND, 13 -IND, 14 OUTD

## IC_TLV9004IPWR
designator U?, comment TLV9004IPWR
CMOS Amplifier 4 Circuit Rail-to-Rail TSSOP14; Manufacturer: Texas Instruments; Alternate Part Number-1: NA; Manufacturer Part Number: TLV9004IPWR; Case/Package: TSSOP14; Supplier-1: MOUSER; Supplier Part Number-1: TLV9004IPWR
footprint TSSOP14_25.6_296_15X55_SMD (CASE: TSSOP)
pins: 1 OUTA, 2 -INA, 3 +INA, 4 V+, 5 +INB, 6 -INB, 7 OUTB, 8 OUTC, 9 -INC, 10 +INC, 11 V-, 12 +IND, 13 -IND, 14 OUTD

## IC_TLV9062IDR
designator U?, comment TLV9062IDR
CMOS Amplifier 2 Circuit Rail-to-Rail 8-VSSOP; Manufacturer: Texas Instruments; Alternate Part Number-1: NA; Manufacturer Part Number: TLV9062IDR; Case/Package: SOIC8; Supplier-1: MOUSER; Supplier Part Number-1: TLV9062IDR
footprint SOIC8_50_328_25X90_SMT (SOIC)
pins: 1 OUT1, 2 IN1-, 3 IN1+, 4 V-, 5 IN2+, 6 IN2-, 7 OUT2, 8 V+

## IC_TMUX1208PWR
designator U?, comment TMUX1208PWR
1 Circuit IC Switch 8:1 3Ohm (Typ) 16-TSSOP; Manufacturer: Texas Instruments; Alternate Part Number-1: NA; Manufacturer Part Number: TMUX1208PWR; Case/Package: TSSOP-16; Supplier-1: Mouser; Supplier Part Number-1: 595-TMUX1208PWR
footprint TSSOP16_25-59_294_54X14_SMT (TSOP, 16-Leads, Body 5.00x4.40mm, Pitch 0.65mm)
pins: 1 A0, 2 EN, 3 NC, 4 S1, 5 S2, 6 S3, 7 S4, 8 D, 9 S8, 10 S7, 11 S6, 12 S5, 13 VDD, 14 GND, 15 A2, 16 A1

## IC_TPL0102-100RUCR
designator U?, comment TPL0102
Digital Potentiometer 100k Ohm 2 Circuit 256 Taps I²C Interface 14-TSSOP; Manufacturer: Texas Instruments; Manufacturer Part Number: TPL0102-100QPWREP; Alternate Part Number-1: NA; Case/Package: TSSOP14; Supplier-1: Mouser; Supplier Part Number-1: 595-TPL0102100QPWREP
footprint TSSOP14_25.6_296_15X55_SMD (CASE: TSSOP)
pins: 1 HA, 2 LA, 3 WA, 4 HB, 5 LB, 6 WB, 7 A2, 8 VSS, 9 SDA, 10 SCL, 11 GND, 12 A1, 13 A0, 14 VDD

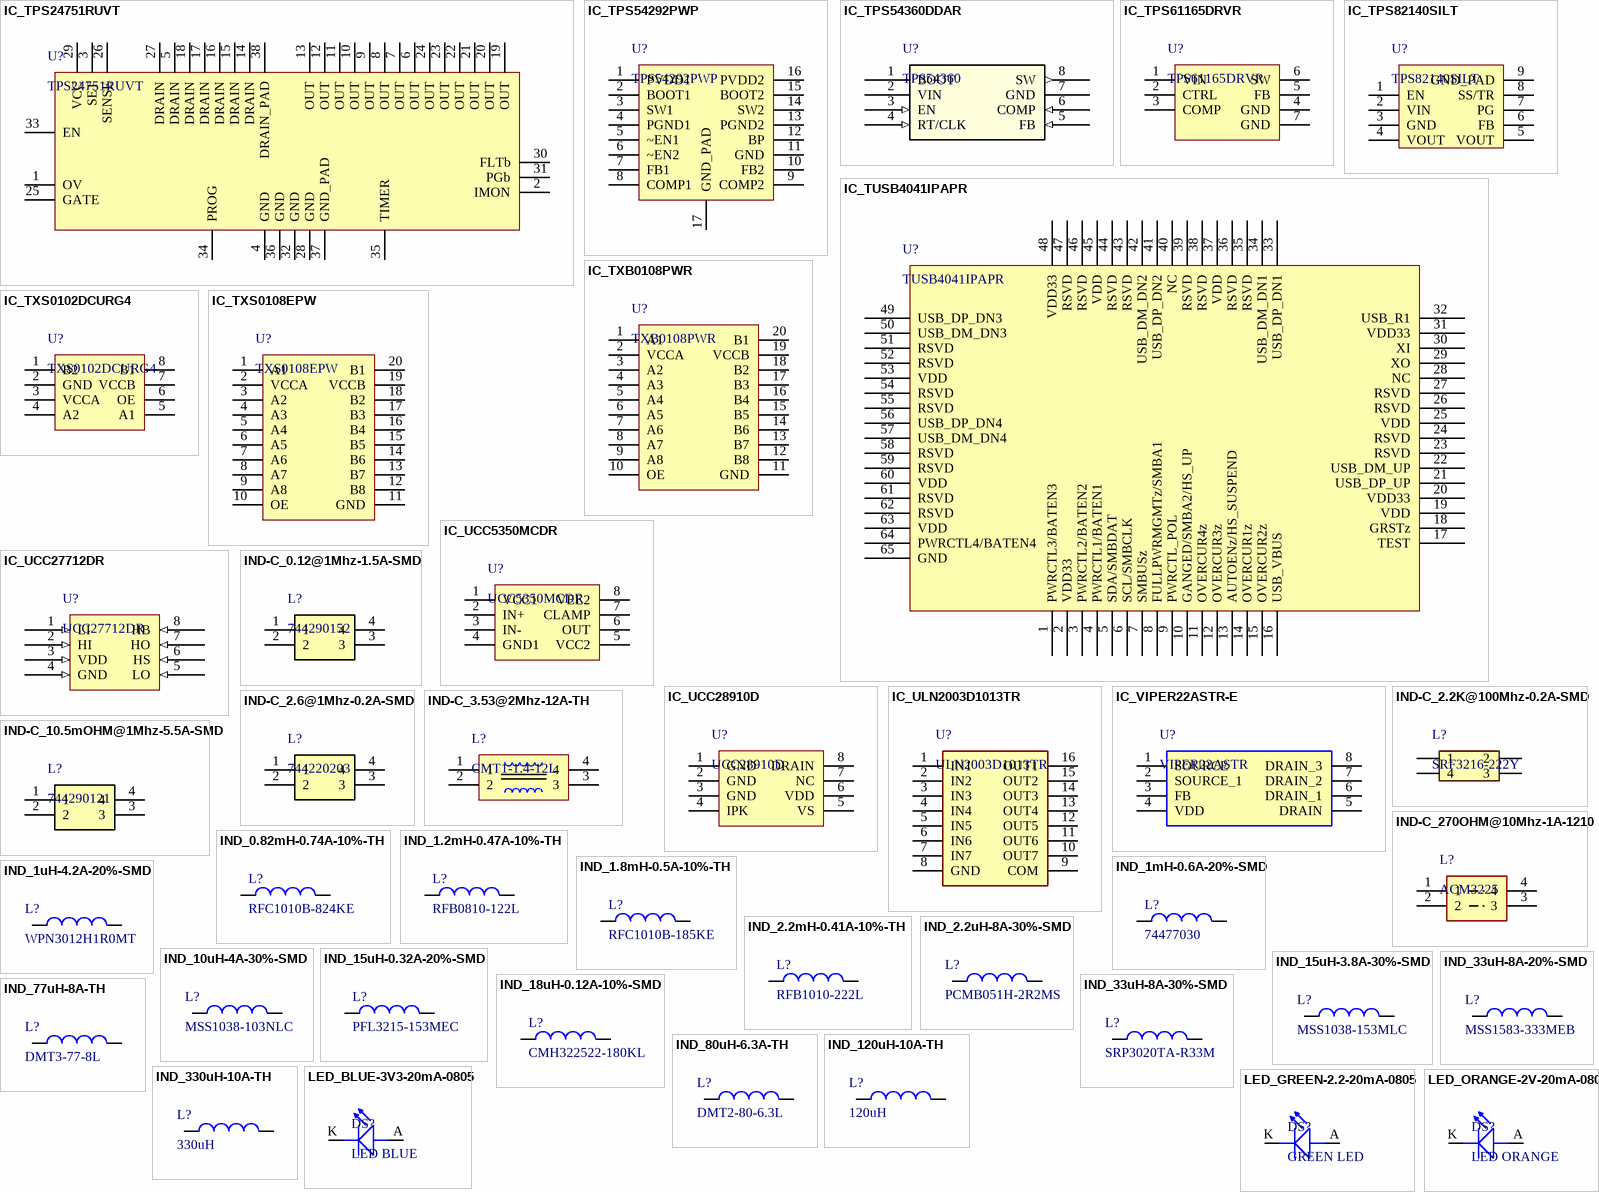
[diagram p9: symbols IC_TPS24751RUVT to LED_ORANGE-2V-20mA-0805]

## IC_TPS24751RUVT
designator U?, comment TPS24751RUVT
Hot Swap Controller 1 Channel General Purpose 36-VQFN (7x3.5); Manufacturer: Texas Instruments; Alternate Part Number-1: NA; Manufacturer Part Number: TPS24751RUVT; Case/Package: 36-VFQFN Exposed Pad; Supplier-1: Arrow; Supplier Part Number-1: TPS24751RUVT
footprint VQFN36_19.6_332_11X39_SMD (QFN, 36-Leads, Body 7.15x3.65mm, Pitch 0.50mm, Thermal Pad 6.30x2.20mm, IPC Medium Density)
pins: 1 OV, 2 IMON, 3 SET, 4 GND, 5 DRAIN, 6 OUT, 7 OUT, 8 OUT, 9 OUT, 10 OUT, 11 OUT, 12 OUT, 13 OUT, 14 DRAIN, 15 DRAIN, 16 DRAIN, 17 DRAIN, 18 DRAIN, 19 OUT, 20 OUT, 21 OUT, 22 OUT, 23 OUT, 24 OUT, 25 GATE, 26 SENSE, 27 DRAIN, 28 GND, 29 VCC, 30 FLTb, 31 PGb, 32 GND, 33 EN, 34 PROG, 35 TIMER, 36 GND, 37 GND_PAD, 38 DRAIN_PAD

## IC_TPS54292PWP
designator U?, comment TPS54292PWP
Buck Switching Regulator IC Positive Adjustable 0.8V 2 Output 1.5A, 2.5A 16-PowerTSSOP (0.173", 4.40mm Width); Manufacturer: Texas Instruments; Alternate Part Number-1: NA; Manufacturer Part Number: TPS54292PWP; Case/Package: HTSSOP EP-16; Supplier-1: MOUSER; Supplier Part Number-1: TPS54292PWP
footprint HTSSOP-16_26_307_59X17_SMD (16-PowerTSSOP)
pins: 1 PVDD1, 2 BOOT1, 3 SW1, 4 PGND1, 5 ~EN1, 6 ~EN2, 7 FB1, 8 COMP1, 9 COMP2, 10 FB2, 11 GND, 12 BP, 13 PGND2, 14 SW2, 15 BOOT2, 16 PVDD2, 17 GND_PAD

## IC_TPS54360DDAR
designator U?, comment TPS54360
Buck, Split Rail Switching Regulator IC Positive Adjustable 0.8V 1 Output 3.5A 8-PowerSOIC (0.154", 3.90mm Width); Manufacturer: Texas Instruments; Manufacturer Part Number: TPS54360DDAR; Alternate Part Number-1: NA; Case/Package: SOIC8; Supplier-1: LCSC; Supplier Part Number-1: C44377
footprint SOIC8_50_328_25X90_SMT (SOIC)
pins: 1 BOOT, 2 VIN (power), 3 EN (in), 4 RT/CLK (in), 5 FB (in), 6 COMP (in), 7 GND (power), 8 SW (out)

## IC_TPS61165DRVR
designator U?, comment TPS61165DRVR
LED Driver IC 1 Output DC DC Regulator Step-Up (Boost) PWM Dimming 1.2A (Switch) 6-WSON (2x2); Manufacturer: Texas Instruments; Alternate Part Number-1: NA; Manufacturer Part Number: TPS61165DRVR; Case/Package: WSON-6; Supplier-1: Digikey; Supplier Part Number-1: TPS61165DRVR
footprint WSON-6_25_126_23X13_SMD (diode)
pins: 1 VIN, 2 CTRL, 3 COMP, 4 GND, 5 FB, 6 SW, 7 GND

## IC_TPS82140SILT
designator U?, comment TPS82140SILT
Non-Isolated PoL Module DC DC Converter 1 Output 0.9 ~ 6V 2A 3V - 17V Input; Manufacturer: Texas Instruments; Alternate Part Number-1: NA; Manufacturer Part Number: TPS82140SILT; Case/Package: SIL0008D; Supplier-1: RS COMP; Supplier Part Number-1: TPS82140SILT
footprint SIL0008D_25.6_118_19x15_SMD (8-LDFN Exposed Pad, Module)
pins: 1 EN, 2 VIN, 3 GND, 4 VOUT, 5 VOUT, 6 FB, 7 PG, 8 SS/TR, 9 GND_PAD

## IC_TUSB4041IPAPR
designator U?, comment TUSB4041IPAPR
USB Hub Controller USB 2.0 USB Interface 64-HTQFP (10x10); Manufacturer: Texas Instruments; Alternate Part Number-1: NA; Manufacturer Part Number: TUSB4041IPAPR; Case/Package: 64-HTQFP (10x10); Supplier-1: LCSC; Supplier Part Number-1: C192089
footprint HTQFP-64_19.6_531_59X11_SMD (HTQFP package)
pins: 1 PWRCTL3/BATEN3, 2 VDD33, 3 PWRCTL2/BATEN2, 4 PWRCTL1/BATEN1, 5 SDA/SMBDAT, 6 SCL/SMBCLK, 7 SMBUSz, 8 FULLPWRMGMTz/SMBA1, 9 PWRCTL_POL, 10 GANGED/SMBA2/HS_UP , 11 OVERCUR4z, 12 OVERCUR3z, 13 AUTOENz/HS_SUSPEND, 14 OVERCUR1z, 15 OVERCUR2z , 16 USB_VBUS, 17 TEST, 18 GRSTz, 19 VDD, 20 VDD33, 21 USB_DP_UP, 22 USB_DM_UP, 23 RSVD, 24 RSVD, 25 VDD, 26 RSVD, 27 RSVD, 28 NC, 29 XO, 30 XI, 31 VDD33, 32 USB_R1, 33 USB_DP_DN1, 34 USB_DM_DN1, 35 RSVD, 36 RSVD, 37 VDD, 38 RSVD, 39 RSVD, 40 NC, 41 USB_DP_DN2, 42 USB_DM_DN2, 43 RSVD, 44 RSVD, 45 VDD, 46 RSVD, 47 RSVD, 48 VDD33, 49 USB_DP_DN3, 50 USB_DM_DN3, 51 RSVD, 52 RSVD, 53 VDD, 54 RSVD, 55 RSVD, 56 USB_DP_DN4, 57 USB_DM_DN4, 58 RSVD, 59 RSVD, 60 VDD, 61 RSVD, 62 RSVD, 63 VDD, 64 PWRCTL4/BATEN4, 65 GND

## IC_TXB0108PWR
designator U?, comment TXB0108PWR
Voltage Level Translator Bidirectional 1 Circuit 8 Channel 100Mbps 20-TSSOP; Manufacturer: Texas Instruments; Alternate Part Number-1: NA; Manufacturer Part Number: TXB0108PWR; Case/Package: TSSOP20; Supplier-1: Mouser; Supplier Part Number-1: 595-TXB0108PWR
footprint TSSOP20_25-59_292_12X65_SMT
pins: 1 A1, 2 VCCA, 3 A2, 4 A3, 5 A4, 6 A5, 7 A6, 8 A7, 9 A8, 10 OE, 11 GND, 12 B8, 13 B7, 14 B6, 15 B5, 16 B4, 17 B3, 18 B2, 19 VCCB, 20 B1

## IC_TXS0102DCURG4
designator U?, comment TXS0102DCURG4
Voltage Level Translator Bidirectional 1 Circuit 2 Channel 24Mbps 8-VSSOP; Manufacturer: Texas Instruments; Alternate Part Number-1: NA; Manufacturer Part Number: TXS0102DCURG4; Case/Package: VSSOP8; Supplier-1: Mouser; Supplier Part Number-1: TXS0102DCURG4
footprint VSSOP-8_19.6_157_33X11_SMD (VSSOP)
pins: 1 B2, 2 GND, 3 VCCA, 4 A2, 5 A1, 6 OE, 7 VCCB, 8 B1

## IC_TXS0108EPW
designator U?, comment TXS0108EPW
TXS0108E 8-Bit Bi-directional, Level-Shifting, Voltage Translator / for Open-Drain and Push-Pull Applications; Manufacturer: Texas Instruments; Alternate Part Number-1: NA; Manufacturer Part Number: TXS0108EPW; Case/Package: TSSOP-20; Supplier-1: Mouser; Supplier Part Number-1: 595-TXS0108EPWRG4
footprint TSSOP20_25-59_292_12X65_SMT
pins: 1 A1, 2 VCCA, 3 A2, 4 A3, 5 A4, 6 A5, 7 A6, 8 A7, 9 A8, 10 OE, 11 GND, 12 B8, 13 B7, 14 B6, 15 B5, 16 B4, 17 B3, 18 B2, 19 VCCB, 20 B1

## IC_UCC5350MCDR
designator U?, comment UCC5350MCDR
Gate Driver Capacitive Coupling 3000Vrms 1 Channel 8-SOIC; Manufacturer: Texas Instruments; Alternate Part Number-1: NA; Manufacturer Part Number: UCC5350MCDR; Case/Package: SOIC8; Supplier-1: MOUSER; Supplier Part Number-1: UCC5350MCDR
footprint SOIC8_50_328_25X90_SMT (SOIC)
pins: 1 VCC1, 2 IN+, 3 IN-, 4 GND1, 5 VCC2, 6 OUT, 7 CLAMP, 8 VEE2

## IC_UCC27712DR
designator U?, comment UCC27712DR
Half-Bridge Gate Driver IC 8-SOIC; Manufacturer: Texas Instruments; Alternate Part Number-1: NA; Manufacturer Part Number: UCC27712DR; Case/Package: SOIC8; Supplier-1: LCSC; Supplier Part Number-1: C269870
footprint SOIC8_50_328_25X90_SMT (SOIC)
pins: 1 LI (in), 2 HI (in), 3 VDD (in), 4 GND (in), 5 LO (in), 6 HS (in), 7 HO (in), 8 HB (in)

## IC_UCC28910D
designator U?, comment UCC28910D
Converter Offline Flyback Topology 420Hz ~ 115kHz 7-SOIC; Manufacturer: Texas Instruments; Alternate Part Number-1: NA; Manufacturer Part Number: UCC28910D; Case/Package: SOIC8; Supplier-1: ARROW; Supplier Part Number-1: UCC28910D
footprint SOIC8_50_328_25X90_SMT (SOIC)
pins: 1 GND, 2 GND, 3 GND, 4 IPK, 5 VS, 6 VDD, 7 NC, 8 DRAIN

## IC_ULN2003D1013TR
designator U?, comment ULN2003D1013TR
Bipolar (BJT) Transistor Array 7 NPN Darlington 50V 500mA Surface Mount 16-SO; Manufacturer: STMicroelectronics; Alternate Part Number-1: NA; Manufacturer Part Number: ULN2003D1013TR; Case/Package: SOIC16; Supplier-1: LCSC; Supplier Part Number-1: C61273
footprint SOIC16_50_284_25X90_SMT
pins: 1 IN1, 2 IN2, 3 IN3, 4 IN4, 5 IN5, 6 IN6, 7 IN7, 8 GND, 9 COM, 10 OUT7, 11 OUT6, 12 OUT5, 13 OUT4, 14 OUT3, 15 OUT2, 16 OUT1

## IC_VIPER22ASTR-E
designator U?, comment VIPER22ASTR
Converter Offline Flyback Topology 60kHz 8-SOIC; Manufacturer: STMicroelectronics; Manufacturer Part Number: VIPER22ASTR-E; Alternate Part Number-1: NA; Case/Package: SOIC8; Supplier-1: LCSC; Supplier Part Number-1: C9216
footprint SOIC8_50_328_25X90_SMT (SOIC)
pins: 1 SOURCE, 2 SOURCE_1, 3 FB, 4 VDD (power), 5 DRAIN, 6 DRAIN_1, 7 DRAIN_2, 8 DRAIN_3

## IND-C_0.12@1Mhz-1.5A-SMD
designator L?, comment 744290152
1.5mH @ 10kHz 2 Line Common Mode Choke Surface Mount 1.5A DCR 120mOhm; Manufacturer: WE; Alternate Part Number-1: NA; Manufacturer Part Number: 744290152; Case/Package: SMD; Supplier-1: WURTH; Supplier Part Number-1: 744290152
footprint IND_100_705_63X110_SMD (CASE: SMD)
pins: 1, 2, 3, 4

## IND-C_2.2K@100Mhz-0.2A-SMD
designator L?, comment SRF3216-222Y
2 Line Common Mode Choke Surface Mount 2.2 kOhms @ 100MHz 200mA DCR 1.2Ohm; Manufacturer: WE; Alternate Part Number-1: NA; Manufacturer Part Number: SRF3216-222Y; Case/Package: SMD; Supplier-1: ARROW; Supplier Part Number-1: SRF3216-222Y
footprint IND_39.3_150_23X35_SMD (Inductor)
pins: 1, 2, 3, 4

## IND-C_2.6@1Mhz-0.2A-SMD
designator L?, comment 744220203
WE-SL2 SMD inductance with ferrite core, 4.7 mH / ± 50%, 100kHz 500mA; Manufacturer: Bourns; Alternate Part Number-1: NA; Manufacturer Part Number: 744220203; Case/Package: SMD; Supplier-1: WURTH; Supplier Part Number-1: 744220203
footprint IND_100_410_59X110_SMD (CASE: SMD)
pins: 1, 2, 3, 4

## IND-C_3.53@2Mhz-12A-TH
designator L?, comment CMT1-1.4-12L
IND-C_3.53@2Mhz-12A-TH; Manufacturer: WE; Alternate Part Number-1: NA; Manufacturer Part Number: CMT1-1.4-12L; Case/Package: TH; Supplier-1: COILCRAFT SAMPLE; Supplier Part Number-1: CMT1-1.4-12L
footprint CMT1_1.4_12L
pins: 1, 2, 3, 4

## IND-C_10.5mOHM@1Mhz-5.5A-SMD
designator L?, comment 744290121
120µH @ 10kHz 2 Line Common Mode Choke Surface Mount 5.5A DCR 10.5mOhm; Manufacturer: TDK; Alternate Part Number-1: NA; Manufacturer Part Number: 744290121; Case/Package: SMD; Supplier-1: WURTH; Supplier Part Number-1: 744290121
footprint IND_100_705_63X110_SMD (CASE: SMD)
pins: 1, 2, 3, 4

## IND-C_270OHM@10Mhz-1A-1210
designator L?, comment ACM3225
2 Line Common Mode Choke Surface Mount 600 Ohms @ 100MHz 1A DCR 200mOhm; Manufacturer: Coilcraft; Manufacturer Part Number: ACM3225-601-2P-T001; Alternate Part Number-1: NA; Case/Package: 1210; Supplier-1: Coilcraft; Supplier Part Number-1: ACM3225-601-2P-T001
footprint IND_1206_SMD_4PIN (CASE: SMD)
pins: 1, 2, 3, 4

## IND_0.82mH-0.74A-10%-TH
designator L?, comment RFC1010B-824KE
Fixed Inductors AEC-Q200 1200uH 100kHz 2.1mOhms; Manufacturer: Coilcraft; Alternate Part Number-1: NA; Manufacturer Part Number: RFC1010B-824KE; Case/Package: TH; Supplier-1: COILCRAFT SAMPLE; Supplier Part Number-1: RFC1010B-824KE
footprint IND_P236_D433_H452_70X59_TH (Inductor)
pins: 1, 2

## IND_1.2mH-0.47A-10%-TH
designator L?, comment RFB0810-122L
Fixed Inductors RFB0810 AEC-Q200 100kHz 2.8mOhms; Manufacturer: Coilcraft; Alternate Part Number-1: NA; Manufacturer Part Number: RFB0810-122L; Case/Package: TH; Supplier-1: COILCRAFT SAMPLE; Supplier Part Number-1: RFB0810-122L
footprint IND_P220_D378_H452_70X59_TH (Inductor)
pins: 1, 2

## IND_1.8mH-0.5A-10%-TH
designator L?, comment RFC1010B-185KE
Fixed Inductors AEC-Q200 1800uH 100kHz 3.5mOhms; Manufacturer: Coilcraft; Alternate Part Number-1: NA; Manufacturer Part Number: RFC1010B-185KE; Case/Package: TH; Supplier-1: COILCRAFT SAMPLE; Supplier Part Number-1: RFC1010B-185KE
footprint IND_P236_D433_H452_70X59_TH (Inductor)
pins: 1, 2